# Altium integrated library Actel ProASIC3.IntLib: 465 symbols (part 13 of 68)
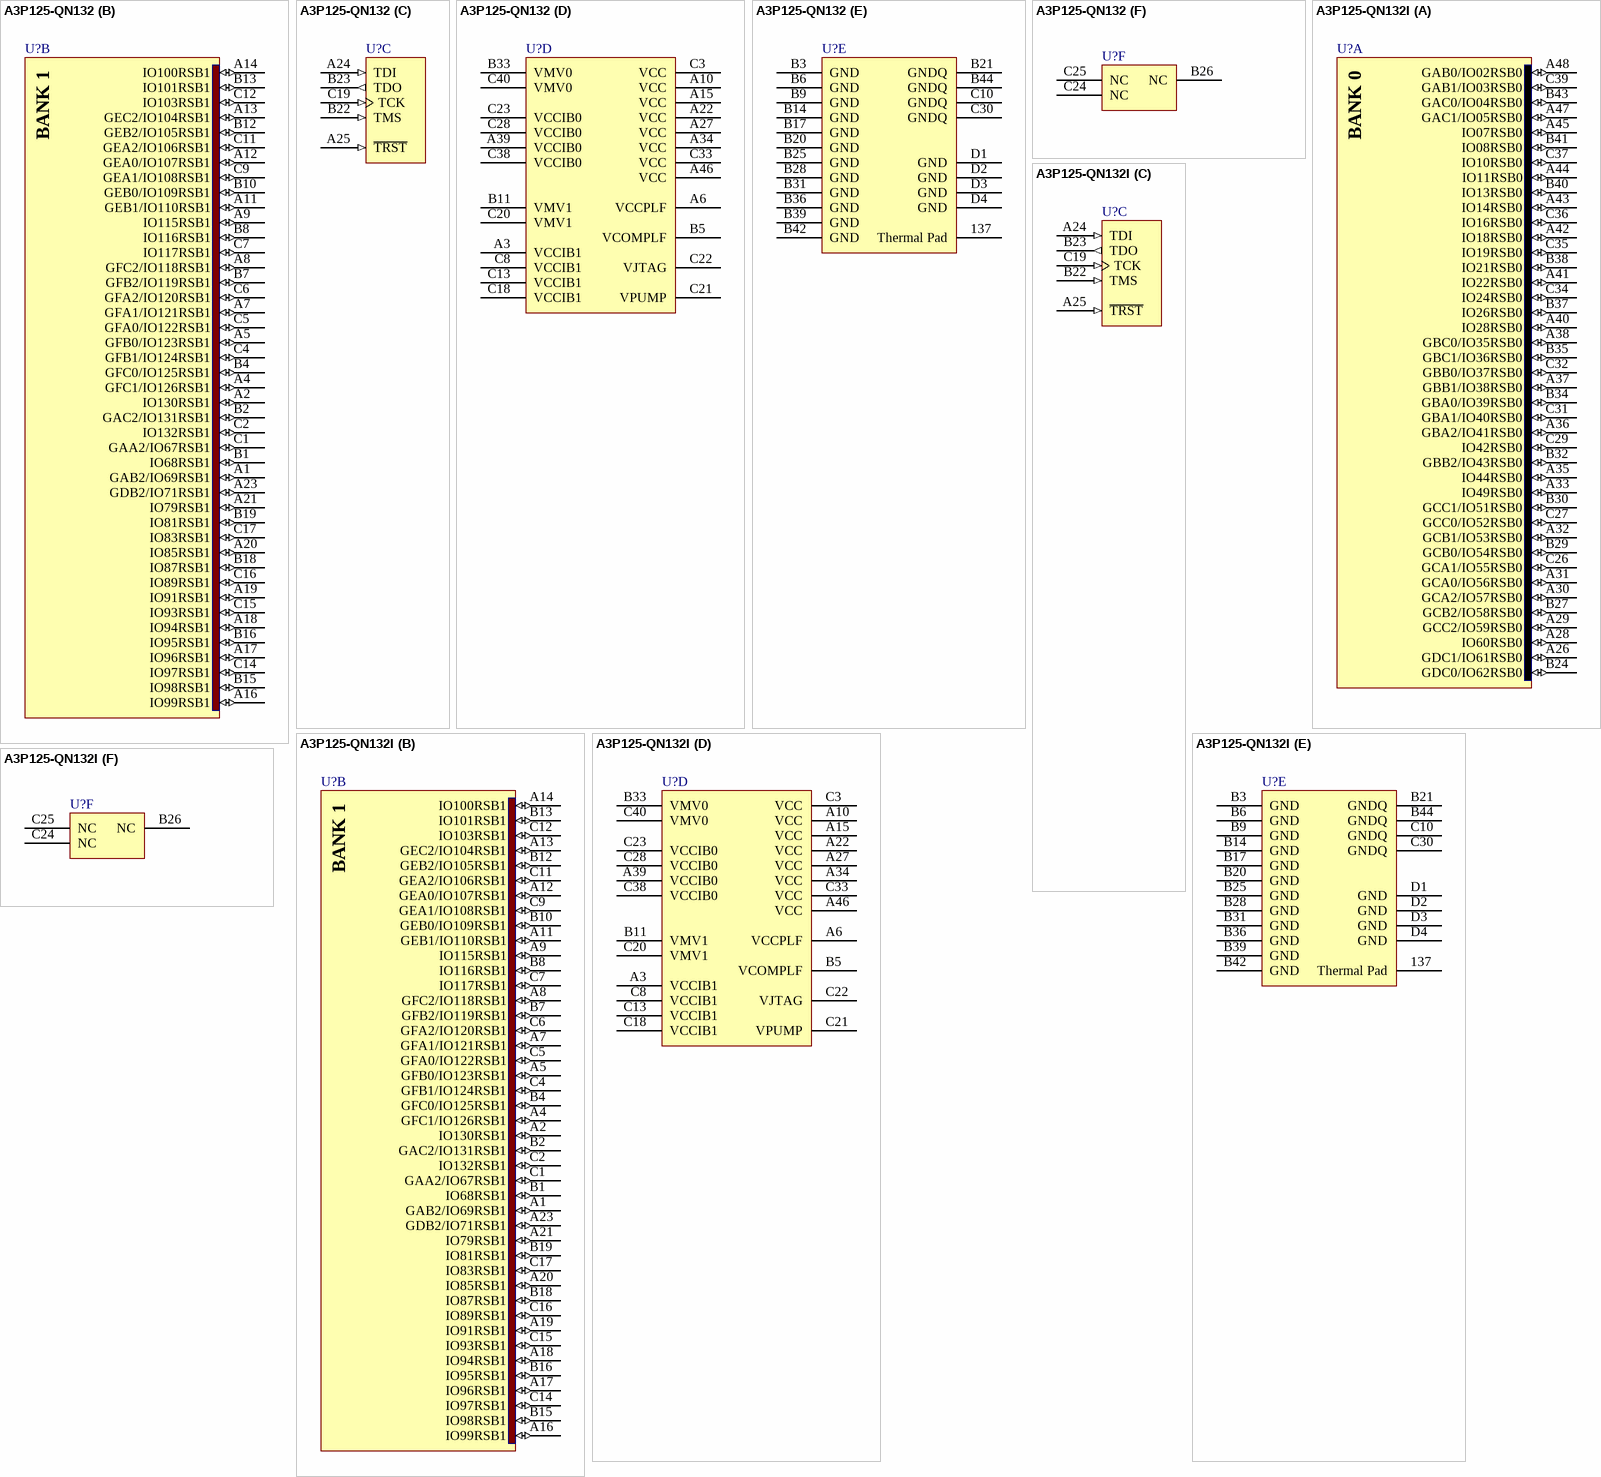
[diagram p330: symbols A3P125-QN132 to A3P125-QN132I]

## A3P125-QN132
designator U?
ProASIC3 Flash Family FPGA, 84 User IOs, 125K System Gates, 36 Kbits RAM, 1 Kbit ProASIC3 Flash ROM, 1 PLL, 132-Pin QFN, Commercial Grade; Published: 30-Mar-2007; LatestRevisionDate: 11-Dec-2009; LatestRevisionNote: Updated to datasheet version 1.3 Oct-2009.; DatasheetVersion: v1.3, Oct-2009; PackageVersion: ver11.2, Nov-2009; PackageReference: QN132; Publisher: Altium Limited; PackageDescription: 132-Pin Quad Flat Pack No-Leads (QN132); ComponentLink1Description: ProASIC3 Datasheet; ComponentLink1URL: http://www.actel.com/documents/PA3_DS.pdf; ComponentLink2Description: Package Mechanical Drawings; ComponentLink2URL: http://www.actel.com/documents/PckgMechDrwngs.pdf; ComponentLink3Description: ProASIC3 Documents; ComponentLink3URL: http://www.actel.com/products/pa3/docs.aspx; ComponentLink4Description: Actel.com Home; ComponentLink4URL: http://www.actel.com/
footprint QN132 (QFN, 132-Leads, Body 8x8mm, Pitch 0.5mm)
signal-integrity model A3P125_QN132 (ProASIC3)
part A pins: A26 GDC1/IO61RSB0 (io), A28 IO60RSB0 (io), A29 GCC2/IO59RSB0 (io), A30 GCA2/IO57RSB0 (io), A31 GCA0/IO56RSB0 (io), A32 GCB1/IO53RSB0 (io), A33 IO49RSB0 (io), A35 IO44RSB0 (io), A36 GBA2/IO41RSB0 (io), A37 GBB1/IO38RSB0 (io), A38 GBC0/IO35RSB0 (io), A40 IO28RSB0 (io), A41 IO22RSB0 (io), A42 IO18RSB0 (io), A43 IO14RSB0 (io), A44 IO11RSB0 (io), A45 IO07RSB0 (io), A47 GAC1/IO05RSB0 (io), A48 GAB0/IO02RSB0 (io), B24 GDC0/IO62RSB0 (io), B27 GCB2/IO58RSB0 (io), B29 GCB0/IO54RSB0 (io), B30 GCC1/IO51RSB0 (io), B32 GBB2/IO43RSB0 (io), B34 GBA0/IO39RSB0 (io), B35 GBC1/IO36RSB0 (io), B37 IO26RSB0 (io), B38 IO21RSB0 (io), B40 IO13RSB0 (io), B41 IO08RSB0 (io), B43 GAC0/IO04RSB0 (io), C26 GCA1/IO55RSB0 (io), C27 GCC0/IO52RSB0 (io), C29 IO42RSB0 (io), C31 GBA1/IO40RSB0 (io), C32 GBB0/IO37RSB0 (io), C34 IO24RSB0 (io), C35 IO19RSB0 (io), C36 IO16RSB0 (io), C37 IO10RSB0 (io), C39 GAB1/IO03RSB0 (io)
part B pins: A1 GAB2/IO69RSB1 (io), A2 IO130RSB1 (io), A4 GFC1/IO126RSB1 (io), A5 GFB0/IO123RSB1 (io), A7 GFA1/IO121RSB1 (io), A8 GFC2/IO118RSB1 (io), A9 IO115RSB1 (io), A11 GEB1/IO110RSB1 (io), A12 GEA0/IO107RSB1 (io), A13 GEC2/IO104RSB1 (io), A14 IO100RSB1 (io), A16 IO99RSB1 (io), A17 IO96RSB1 (io), A18 IO94RSB1 (io), A19 IO91RSB1 (io), A20 IO85RSB1 (io), A21 IO79RSB1 (io), A23 GDB2/IO71RSB1 (io), B1 IO68RSB1 (io), B2 GAC2/IO131RSB1 (io), B4 GFC0/IO125RSB1 (io), B7 GFB2/IO119RSB1 (io), B8 IO116RSB1 (io), B10 GEB0/IO109RSB1 (io), B12 GEB2/IO105RSB1 (io), B13 IO101RSB1 (io), B15 IO98RSB1 (io), B16 IO95RSB1 (io), B18 IO87RSB1 (io), B19 IO81RSB1 (io), C1 GAA2/IO67RSB1 (io), C2 IO132RSB1 (io), C4 GFB1/IO124RSB1 (io), C5 GFA0/IO122RSB1 (io), C6 GFA2/IO120RSB1 (io), C7 IO117RSB1 (io), C9 GEA1/IO108RSB1 (io), C11 GEA2/IO106RSB1 (io), C12 IO103RSB1 (io), C14 IO97RSB1 (io), C15 IO93RSB1 (io), C16 IO89RSB1 (io), C17 IO83RSB1 (io)
part C pins: A24 TDI (in), A25 ~{TRST} (in), B22 TMS (in), B23 TDO (out), C19 TCK (in)
part D pins: A3 VCCIB1 (power), A6 VCCPLF (power), A10 VCC (power), A15 VCC (power), A22 VCC (power), A27 VCC (power), A34 VCC (power), A39 VCCIB0 (power), A46 VCC (power), B5 VCOMPLF (power), B11 VMV1 (power), B33 VMV0 (power), C3 VCC (power), C8 VCCIB1 (power), C13 VCCIB1 (power), C18 VCCIB1 (power), C20 VMV1 (power), C21 VPUMP (power), C22 VJTAG (power), C23 VCCIB0 (power), C28 VCCIB0 (power), C33 VCC (power), C38 VCCIB0 (power), C40 VMV0 (power)
part E pins: 137 Thermal Pad (power), B3 GND (power), B6 GND (power), B9 GND (power), B14 GND (power), B17 GND (power), B20 GND (power), B21 GNDQ (power), B25 GND (power), B28 GND (power), B31 GND (power), B36 GND (power), B39 GND (power), B42 GND (power), B44 GNDQ (power), C10 GNDQ (power), C30 GNDQ (power), D1 GND (power), D2 GND (power), D3 GND (power), D4 GND (power)
part F pins: B26 NC, C24 NC, C25 NC
part A text: BANK 0
part B text: BANK 1

## A3P125-QN132I
designator U?
ProASIC3 Flash Family FPGA, 84 User IOs, 125K System Gates, 36 Kbits RAM, 1 Kbit ProASIC3 Flash ROM, 1 PLL, 132-Pin QFN, Industrial Grade; Published: 30-Mar-2007; LatestRevisionDate: 11-Dec-2009; LatestRevisionNote: Updated to datasheet version 1.3 Oct-2009.; DatasheetVersion: v1.3, Oct-2009; PackageVersion: ver11.2, Nov-2009; PackageReference: QN132; Publisher: Altium Limited; PackageDescription: 132-Pin Quad Flat Pack No-Leads (QN132); ComponentLink1Description: ProASIC3 Datasheet; ComponentLink1URL: http://www.actel.com/documents/PA3_DS.pdf; ComponentLink2Description: Package Mechanical Drawings; ComponentLink2URL: http://www.actel.com/documents/PckgMechDrwngs.pdf; ComponentLink3Description: ProASIC3 Documents; ComponentLink3URL: http://www.actel.com/products/pa3/docs.aspx; ComponentLink4Description: Actel.com Home; ComponentLink4URL: http://www.actel.com/
footprint QN132 (QFN, 132-Leads, Body 8x8mm, Pitch 0.5mm)
signal-integrity model A3P125_QN132 (ProASIC3)
part A pins: A26 GDC1/IO61RSB0 (io), A28 IO60RSB0 (io), A29 GCC2/IO59RSB0 (io), A30 GCA2/IO57RSB0 (io), A31 GCA0/IO56RSB0 (io), A32 GCB1/IO53RSB0 (io), A33 IO49RSB0 (io), A35 IO44RSB0 (io), A36 GBA2/IO41RSB0 (io), A37 GBB1/IO38RSB0 (io), A38 GBC0/IO35RSB0 (io), A40 IO28RSB0 (io), A41 IO22RSB0 (io), A42 IO18RSB0 (io), A43 IO14RSB0 (io), A44 IO11RSB0 (io), A45 IO07RSB0 (io), A47 GAC1/IO05RSB0 (io), A48 GAB0/IO02RSB0 (io), B24 GDC0/IO62RSB0 (io), B27 GCB2/IO58RSB0 (io), B29 GCB0/IO54RSB0 (io), B30 GCC1/IO51RSB0 (io), B32 GBB2/IO43RSB0 (io), B34 GBA0/IO39RSB0 (io), B35 GBC1/IO36RSB0 (io), B37 IO26RSB0 (io), B38 IO21RSB0 (io), B40 IO13RSB0 (io), B41 IO08RSB0 (io), B43 GAC0/IO04RSB0 (io), C26 GCA1/IO55RSB0 (io), C27 GCC0/IO52RSB0 (io), C29 IO42RSB0 (io), C31 GBA1/IO40RSB0 (io), C32 GBB0/IO37RSB0 (io), C34 IO24RSB0 (io), C35 IO19RSB0 (io), C36 IO16RSB0 (io), C37 IO10RSB0 (io), C39 GAB1/IO03RSB0 (io)
part B pins: A1 GAB2/IO69RSB1 (io), A2 IO130RSB1 (io), A4 GFC1/IO126RSB1 (io), A5 GFB0/IO123RSB1 (io), A7 GFA1/IO121RSB1 (io), A8 GFC2/IO118RSB1 (io), A9 IO115RSB1 (io), A11 GEB1/IO110RSB1 (io), A12 GEA0/IO107RSB1 (io), A13 GEC2/IO104RSB1 (io), A14 IO100RSB1 (io), A16 IO99RSB1 (io), A17 IO96RSB1 (io), A18 IO94RSB1 (io), A19 IO91RSB1 (io), A20 IO85RSB1 (io), A21 IO79RSB1 (io), A23 GDB2/IO71RSB1 (io), B1 IO68RSB1 (io), B2 GAC2/IO131RSB1 (io), B4 GFC0/IO125RSB1 (io), B7 GFB2/IO119RSB1 (io), B8 IO116RSB1 (io), B10 GEB0/IO109RSB1 (io), B12 GEB2/IO105RSB1 (io), B13 IO101RSB1 (io), B15 IO98RSB1 (io), B16 IO95RSB1 (io), B18 IO87RSB1 (io), B19 IO81RSB1 (io), C1 GAA2/IO67RSB1 (io), C2 IO132RSB1 (io), C4 GFB1/IO124RSB1 (io), C5 GFA0/IO122RSB1 (io), C6 GFA2/IO120RSB1 (io), C7 IO117RSB1 (io), C9 GEA1/IO108RSB1 (io), C11 GEA2/IO106RSB1 (io), C12 IO103RSB1 (io), C14 IO97RSB1 (io), C15 IO93RSB1 (io), C16 IO89RSB1 (io), C17 IO83RSB1 (io)
part C pins: A24 TDI (in), A25 ~{TRST} (in), B22 TMS (in), B23 TDO (out), C19 TCK (in)
part D pins: A3 VCCIB1 (power), A6 VCCPLF (power), A10 VCC (power), A15 VCC (power), A22 VCC (power), A27 VCC (power), A34 VCC (power), A39 VCCIB0 (power), A46 VCC (power), B5 VCOMPLF (power), B11 VMV1 (power), B33 VMV0 (power), C3 VCC (power), C8 VCCIB1 (power), C13 VCCIB1 (power), C18 VCCIB1 (power), C20 VMV1 (power), C21 VPUMP (power), C22 VJTAG (power), C23 VCCIB0 (power), C28 VCCIB0 (power), C33 VCC (power), C38 VCCIB0 (power), C40 VMV0 (power)
part E pins: 137 Thermal Pad (power), B3 GND (power), B6 GND (power), B9 GND (power), B14 GND (power), B17 GND (power), B20 GND (power), B21 GNDQ (power), B25 GND (power), B28 GND (power), B31 GND (power), B36 GND (power), B39 GND (power), B42 GND (power), B44 GNDQ (power), C10 GNDQ (power), C30 GNDQ (power), D1 GND (power), D2 GND (power), D3 GND (power), D4 GND (power)
part F pins: B26 NC, C24 NC, C25 NC
part A text: BANK 0
part B text: BANK 1

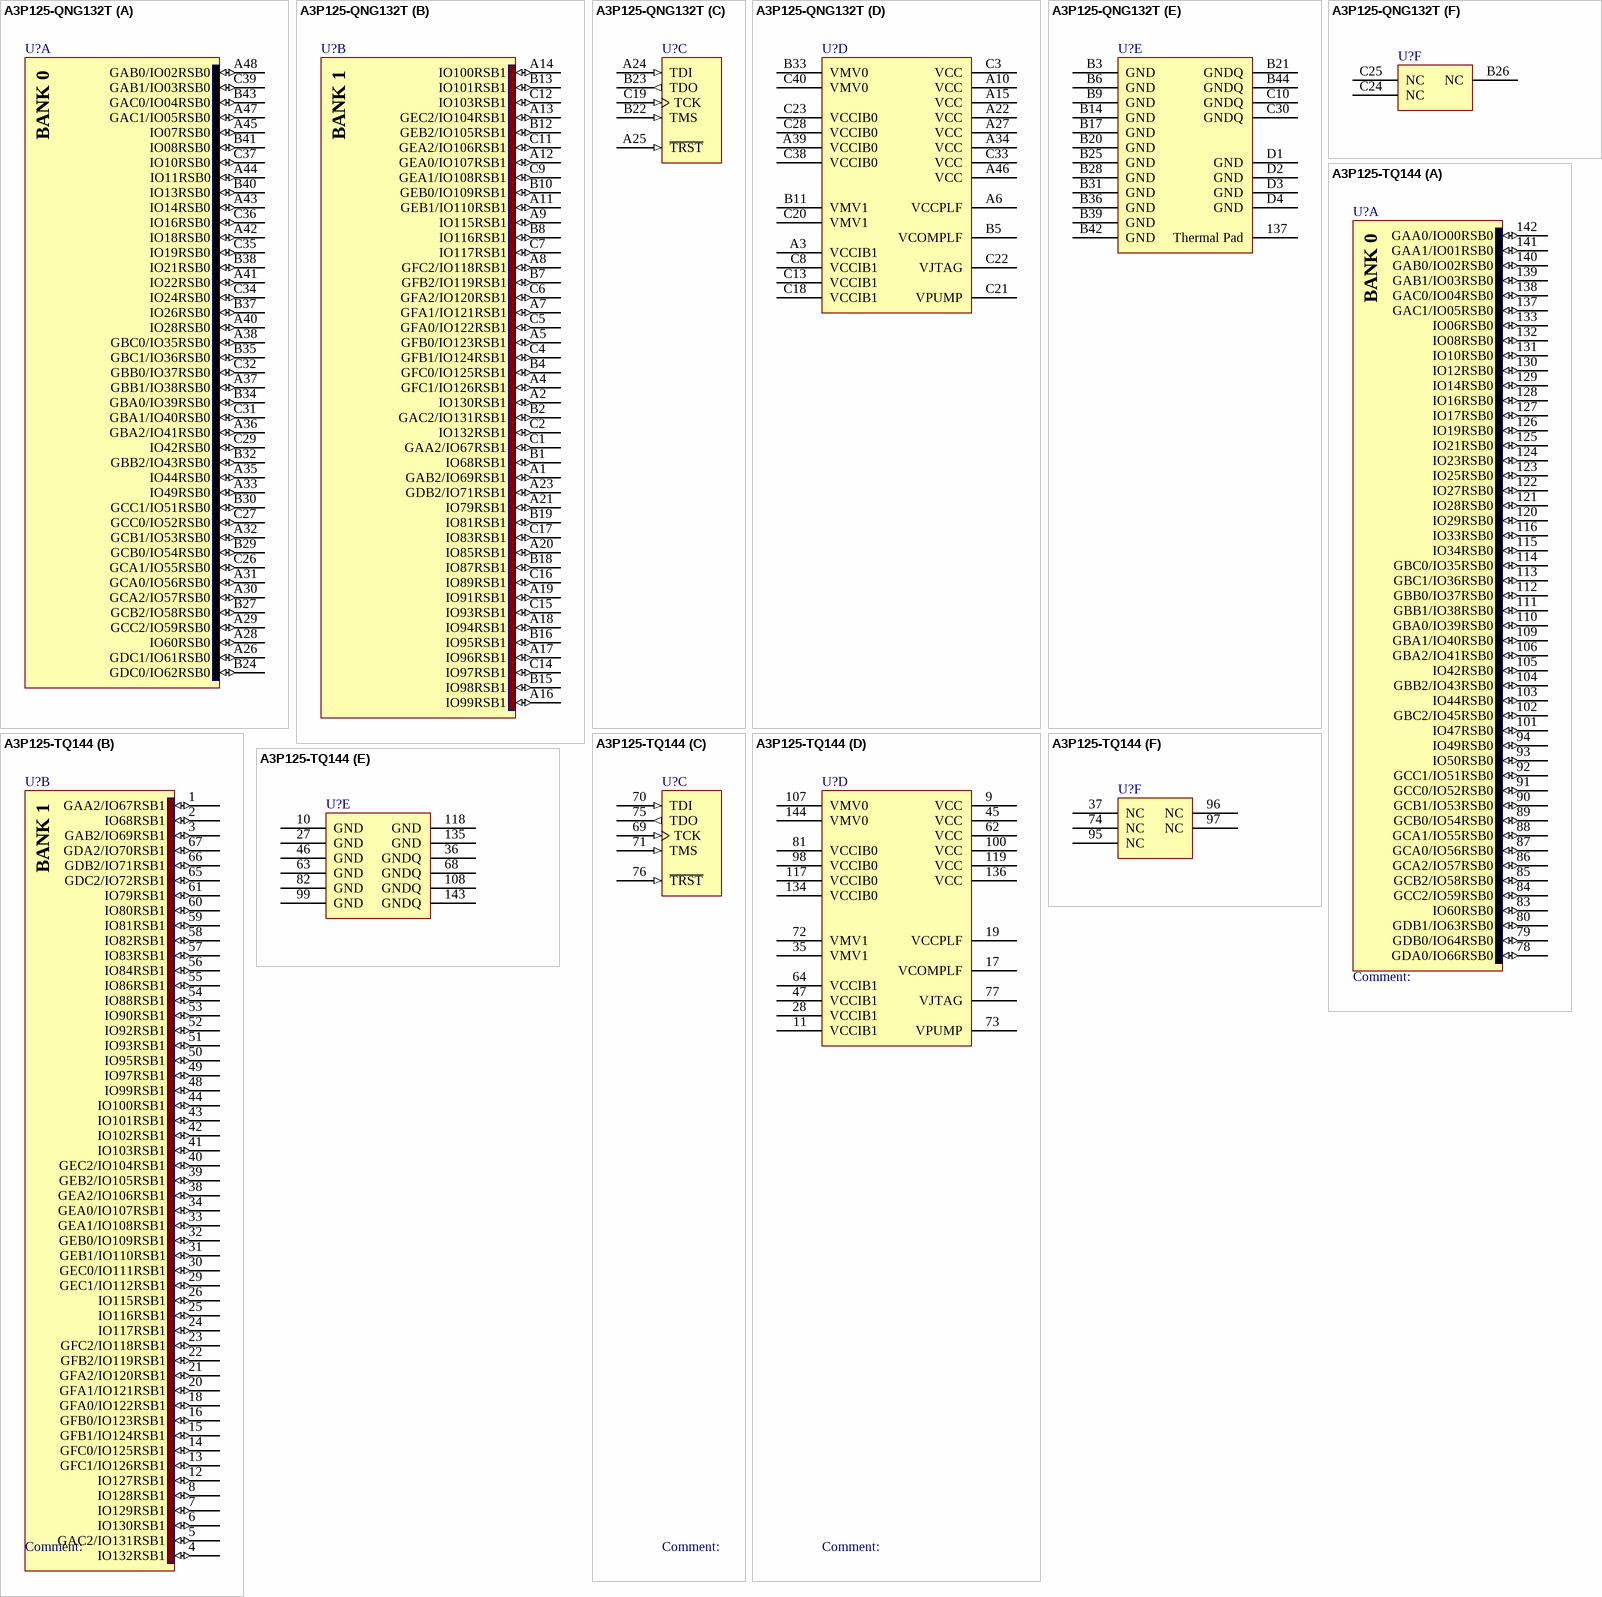
[diagram p56: symbols A3P125-QNG132T to A3P125-TQ144]

## A3P125-QNG132T
designator U?
ProASIC3 Flash Family FPGA, 84 User IOs, 125K System Gates, 36 Kbits RAM, 1 Kbit ProASIC3 Flash ROM, 1 PLL, 132-Pin QFN, Automotive Grade, Pb-Free; Published: 11-Dec-2009; DatasheetVersion: v1.1, Dec-2009; PackageVersion: ver11.2, Nov-2009; PackageReference: QN132; Publisher: Altium Limited; PackageDescription: 132-Pin Quad Flat Pack No-Leads (QN132); ComponentLink1Description: ProASIC3 Datasheet; ComponentLink1URL: http://www.actel.com/documents/PA3_DS.pdf; ComponentLink2Description: Package Mechanical Drawings; ComponentLink2URL: http://www.actel.com/documents/PckgMechDrwngs.pdf; ComponentLink3Description: ProASIC3 Documents; ComponentLink3URL: http://www.actel.com/products/pa3/docs.aspx; ComponentLink4Description: Actel.com Home; ComponentLink4URL: http://www.actel.com/
footprint QN132 (QFN, 132-Leads, Body 8x8mm, Pitch 0.5mm)
signal-integrity model A3P125_QN132 (ProASIC3)
part A pins: A26 GDC1/IO61RSB0 (io), A28 IO60RSB0 (io), A29 GCC2/IO59RSB0 (io), A30 GCA2/IO57RSB0 (io), A31 GCA0/IO56RSB0 (io), A32 GCB1/IO53RSB0 (io), A33 IO49RSB0 (io), A35 IO44RSB0 (io), A36 GBA2/IO41RSB0 (io), A37 GBB1/IO38RSB0 (io), A38 GBC0/IO35RSB0 (io), A40 IO28RSB0 (io), A41 IO22RSB0 (io), A42 IO18RSB0 (io), A43 IO14RSB0 (io), A44 IO11RSB0 (io), A45 IO07RSB0 (io), A47 GAC1/IO05RSB0 (io), A48 GAB0/IO02RSB0 (io), B24 GDC0/IO62RSB0 (io), B27 GCB2/IO58RSB0 (io), B29 GCB0/IO54RSB0 (io), B30 GCC1/IO51RSB0 (io), B32 GBB2/IO43RSB0 (io), B34 GBA0/IO39RSB0 (io), B35 GBC1/IO36RSB0 (io), B37 IO26RSB0 (io), B38 IO21RSB0 (io), B40 IO13RSB0 (io), B41 IO08RSB0 (io), B43 GAC0/IO04RSB0 (io), C26 GCA1/IO55RSB0 (io), C27 GCC0/IO52RSB0 (io), C29 IO42RSB0 (io), C31 GBA1/IO40RSB0 (io), C32 GBB0/IO37RSB0 (io), C34 IO24RSB0 (io), C35 IO19RSB0 (io), C36 IO16RSB0 (io), C37 IO10RSB0 (io), C39 GAB1/IO03RSB0 (io)
part B pins: A1 GAB2/IO69RSB1 (io), A2 IO130RSB1 (io), A4 GFC1/IO126RSB1 (io), A5 GFB0/IO123RSB1 (io), A7 GFA1/IO121RSB1 (io), A8 GFC2/IO118RSB1 (io), A9 IO115RSB1 (io), A11 GEB1/IO110RSB1 (io), A12 GEA0/IO107RSB1 (io), A13 GEC2/IO104RSB1 (io), A14 IO100RSB1 (io), A16 IO99RSB1 (io), A17 IO96RSB1 (io), A18 IO94RSB1 (io), A19 IO91RSB1 (io), A20 IO85RSB1 (io), A21 IO79RSB1 (io), A23 GDB2/IO71RSB1 (io), B1 IO68RSB1 (io), B2 GAC2/IO131RSB1 (io), B4 GFC0/IO125RSB1 (io), B7 GFB2/IO119RSB1 (io), B8 IO116RSB1 (io), B10 GEB0/IO109RSB1 (io), B12 GEB2/IO105RSB1 (io), B13 IO101RSB1 (io), B15 IO98RSB1 (io), B16 IO95RSB1 (io), B18 IO87RSB1 (io), B19 IO81RSB1 (io), C1 GAA2/IO67RSB1 (io), C2 IO132RSB1 (io), C4 GFB1/IO124RSB1 (io), C5 GFA0/IO122RSB1 (io), C6 GFA2/IO120RSB1 (io), C7 IO117RSB1 (io), C9 GEA1/IO108RSB1 (io), C11 GEA2/IO106RSB1 (io), C12 IO103RSB1 (io), C14 IO97RSB1 (io), C15 IO93RSB1 (io), C16 IO89RSB1 (io), C17 IO83RSB1 (io)
part C pins: A24 TDI (in), A25 ~{TRST} (in), B22 TMS (in), B23 TDO (out), C19 TCK (in)
part D pins: A3 VCCIB1 (power), A6 VCCPLF (power), A10 VCC (power), A15 VCC (power), A22 VCC (power), A27 VCC (power), A34 VCC (power), A39 VCCIB0 (power), A46 VCC (power), B5 VCOMPLF (power), B11 VMV1 (power), B33 VMV0 (power), C3 VCC (power), C8 VCCIB1 (power), C13 VCCIB1 (power), C18 VCCIB1 (power), C20 VMV1 (power), C21 VPUMP (power), C22 VJTAG (power), C23 VCCIB0 (power), C28 VCCIB0 (power), C33 VCC (power), C38 VCCIB0 (power), C40 VMV0 (power)
part E pins: 137 Thermal Pad (power), B3 GND (power), B6 GND (power), B9 GND (power), B14 GND (power), B17 GND (power), B20 GND (power), B21 GNDQ (power), B25 GND (power), B28 GND (power), B31 GND (power), B36 GND (power), B39 GND (power), B42 GND (power), B44 GNDQ (power), C10 GNDQ (power), C30 GNDQ (power), D1 GND (power), D2 GND (power), D3 GND (power), D4 GND (power)
part F pins: B26 NC, C24 NC, C25 NC
part A text: BANK 0
part B text: BANK 1

## A3P125-TQ144
designator U?
ProASIC3 Flash Family FPGA, 100 User IOs, 125K System Gates, 36 Kbits RAM, 1 Kbit Flash ROM, 1 PLL, 144-Pin TQFP, Commercial Grade; Published: 4-Mar-2005; LatestRevisionDate: 11-Dec-2009; LatestRevisionNote: Updated to datasheet version 1.3 Oct-2009.; DatasheetVersion: v1.3, Oct-2009; PackageVersion: ver11.2, Nov-2009; PackageReference: TQ144; Publisher: Altium Limited; PackageDescription: 144-Pin Plastic Quad Flat Pack (TQ144); Code_JEDEC: MS-026-BFB; ComponentLink1Description: ProASIC3 Datasheet; ComponentLink1URL: http://www.actel.com/documents/PA3_DS.pdf; ComponentLink2Description: Package Mechanical Drawings; ComponentLink2URL: http://www.actel.com/documents/PckgMechDrwngs.pdf; ComponentLink3Description: ProASIC3 Documents; ComponentLink3URL: http://www.actel.com/products/pa3/docs.aspx; ComponentLink4Description: Actel.com Home; ComponentLink4URL: http://www.actel.com/
footprint TQ144_N (Thin QFP, 144-Leads, Body 20x20mm, Pitch 0.5mm, IPC Medium Density)
footprint TQ144_L (Thin QFP, 144-Leads, Body 20x20mm, Pitch 0.5mm, IPC High Density)
footprint TQ144_M (Thin QFP, 144-Leads, Body 20x20mm, Pitch 0.5mm, IPC Low Density)
signal-integrity model A3P125_TQ144 (ProASIC3)
part A pins: 78 GDA0/IO66RSB0 (io), 79 GDB0/IO64RSB0 (io), 80 GDB1/IO63RSB0 (io), 83 IO60RSB0 (io), 84 GCC2/IO59RSB0 (io), 85 GCB2/IO58RSB0 (io), 86 GCA2/IO57RSB0 (io), 87 GCA0/IO56RSB0 (io), 88 GCA1/IO55RSB0 (io), 89 GCB0/IO54RSB0 (io), 90 GCB1/IO53RSB0 (io), 91 GCC0/IO52RSB0 (io), 92 GCC1/IO51RSB0 (io), 93 IO50RSB0 (io), 94 IO49RSB0 (io), 101 IO47RSB0 (io), 102 GBC2/IO45RSB0 (io), 103 IO44RSB0 (io), 104 GBB2/IO43RSB0 (io), 105 IO42RSB0 (io), 106 GBA2/IO41RSB0 (io), 109 GBA1/IO40RSB0 (io), 110 GBA0/IO39RSB0 (io), 111 GBB1/IO38RSB0 (io), 112 GBB0/IO37RSB0 (io), 113 GBC1/IO36RSB0 (io), 114 GBC0/IO35RSB0 (io), 115 IO34RSB0 (io), 116 IO33RSB0 (io), 120 IO29RSB0 (io), 121 IO28RSB0 (io), 122 IO27RSB0 (io), 123 IO25RSB0 (io), 124 IO23RSB0 (io), 125 IO21RSB0 (io), 126 IO19RSB0 (io), 127 IO17RSB0 (io), 128 IO16RSB0 (io), 129 IO14RSB0 (io), 130 IO12RSB0 (io), 131 IO10RSB0 (io), 132 IO08RSB0 (io), 133 IO06RSB0 (io), 137 GAC1/IO05RSB0 (io), 138 GAC0/IO04RSB0 (io), 139 GAB1/IO03RSB0 (io), 140 GAB0/IO02RSB0 (io), 141 GAA1/IO01RSB0 (io), 142 GAA0/IO00RSB0 (io)
part B pins: 1 GAA2/IO67RSB1 (io), 2 IO68RSB1 (io), 3 GAB2/IO69RSB1 (io), 4 IO132RSB1 (io), 5 GAC2/IO131RSB1 (io), 6 IO130RSB1 (io), 7 IO129RSB1 (io), 8 IO128RSB1 (io), 12 IO127RSB1 (io), 13 GFC1/IO126RSB1 (io), 14 GFC0/IO125RSB1 (io), 15 GFB1/IO124RSB1 (io), 16 GFB0/IO123RSB1 (io), 18 GFA0/IO122RSB1 (io), 20 GFA1/IO121RSB1 (io), 21 GFA2/IO120RSB1 (io), 22 GFB2/IO119RSB1 (io), 23 GFC2/IO118RSB1 (io), 24 IO117RSB1 (io), 25 IO116RSB1 (io), 26 IO115RSB1 (io), 29 GEC1/IO112RSB1 (io), 30 GEC0/IO111RSB1 (io), 31 GEB1/IO110RSB1 (io), 32 GEB0/IO109RSB1 (io), 33 GEA1/IO108RSB1 (io), 34 GEA0/IO107RSB1 (io), 38 GEA2/IO106RSB1 (io), 39 GEB2/IO105RSB1 (io), 40 GEC2/IO104RSB1 (io), 41 IO103RSB1 (io), 42 IO102RSB1 (io), 43 IO101RSB1 (io), 44 IO100RSB1 (io), 48 IO99RSB1 (io), 49 IO97RSB1 (io), 50 IO95RSB1 (io), 51 IO93RSB1 (io), 52 IO92RSB1 (io), 53 IO90RSB1 (io), 54 IO88RSB1 (io), 55 IO86RSB1 (io), 56 IO84RSB1 (io), 57 IO83RSB1 (io), 58 IO82RSB1 (io), 59 IO81RSB1 (io), 60 IO80RSB1 (io), 61 IO79RSB1 (io), 65 GDC2/IO72RSB1 (io), 66 GDB2/IO71RSB1 (io), 67 GDA2/IO70RSB1 (io)
part C pins: 69 TCK (in), 70 TDI (in), 71 TMS (in), 75 TDO (out), 76 ~{TRST} (in)
part D pins: 9 VCC (power), 11 VCCIB1 (power), 17 VCOMPLF (power), 19 VCCPLF (power), 28 VCCIB1 (power), 35 VMV1 (power), 45 VCC (power), 47 VCCIB1 (power), 62 VCC (power), 64 VCCIB1 (power), 72 VMV1 (power), 73 VPUMP (power), 77 VJTAG (power), 81 VCCIB0 (power), 98 VCCIB0 (power), 100 VCC (power), 107 VMV0 (power), 117 VCCIB0 (power), 119 VCC (power), 134 VCCIB0 (power), 136 VCC (power), 144 VMV0 (power)
part E pins: 10 GND (power), 27 GND (power), 36 GNDQ (power), 46 GND (power), 63 GND (power), 68 GNDQ (power), 82 GND (power), 99 GND (power), 108 GNDQ (power), 118 GND (power), 135 GND (power), 143 GNDQ (power)
part F pins: 37 NC, 74 NC, 95 NC, 96 NC, 97 NC
part A text: BANK 0
part B text: BANK 1

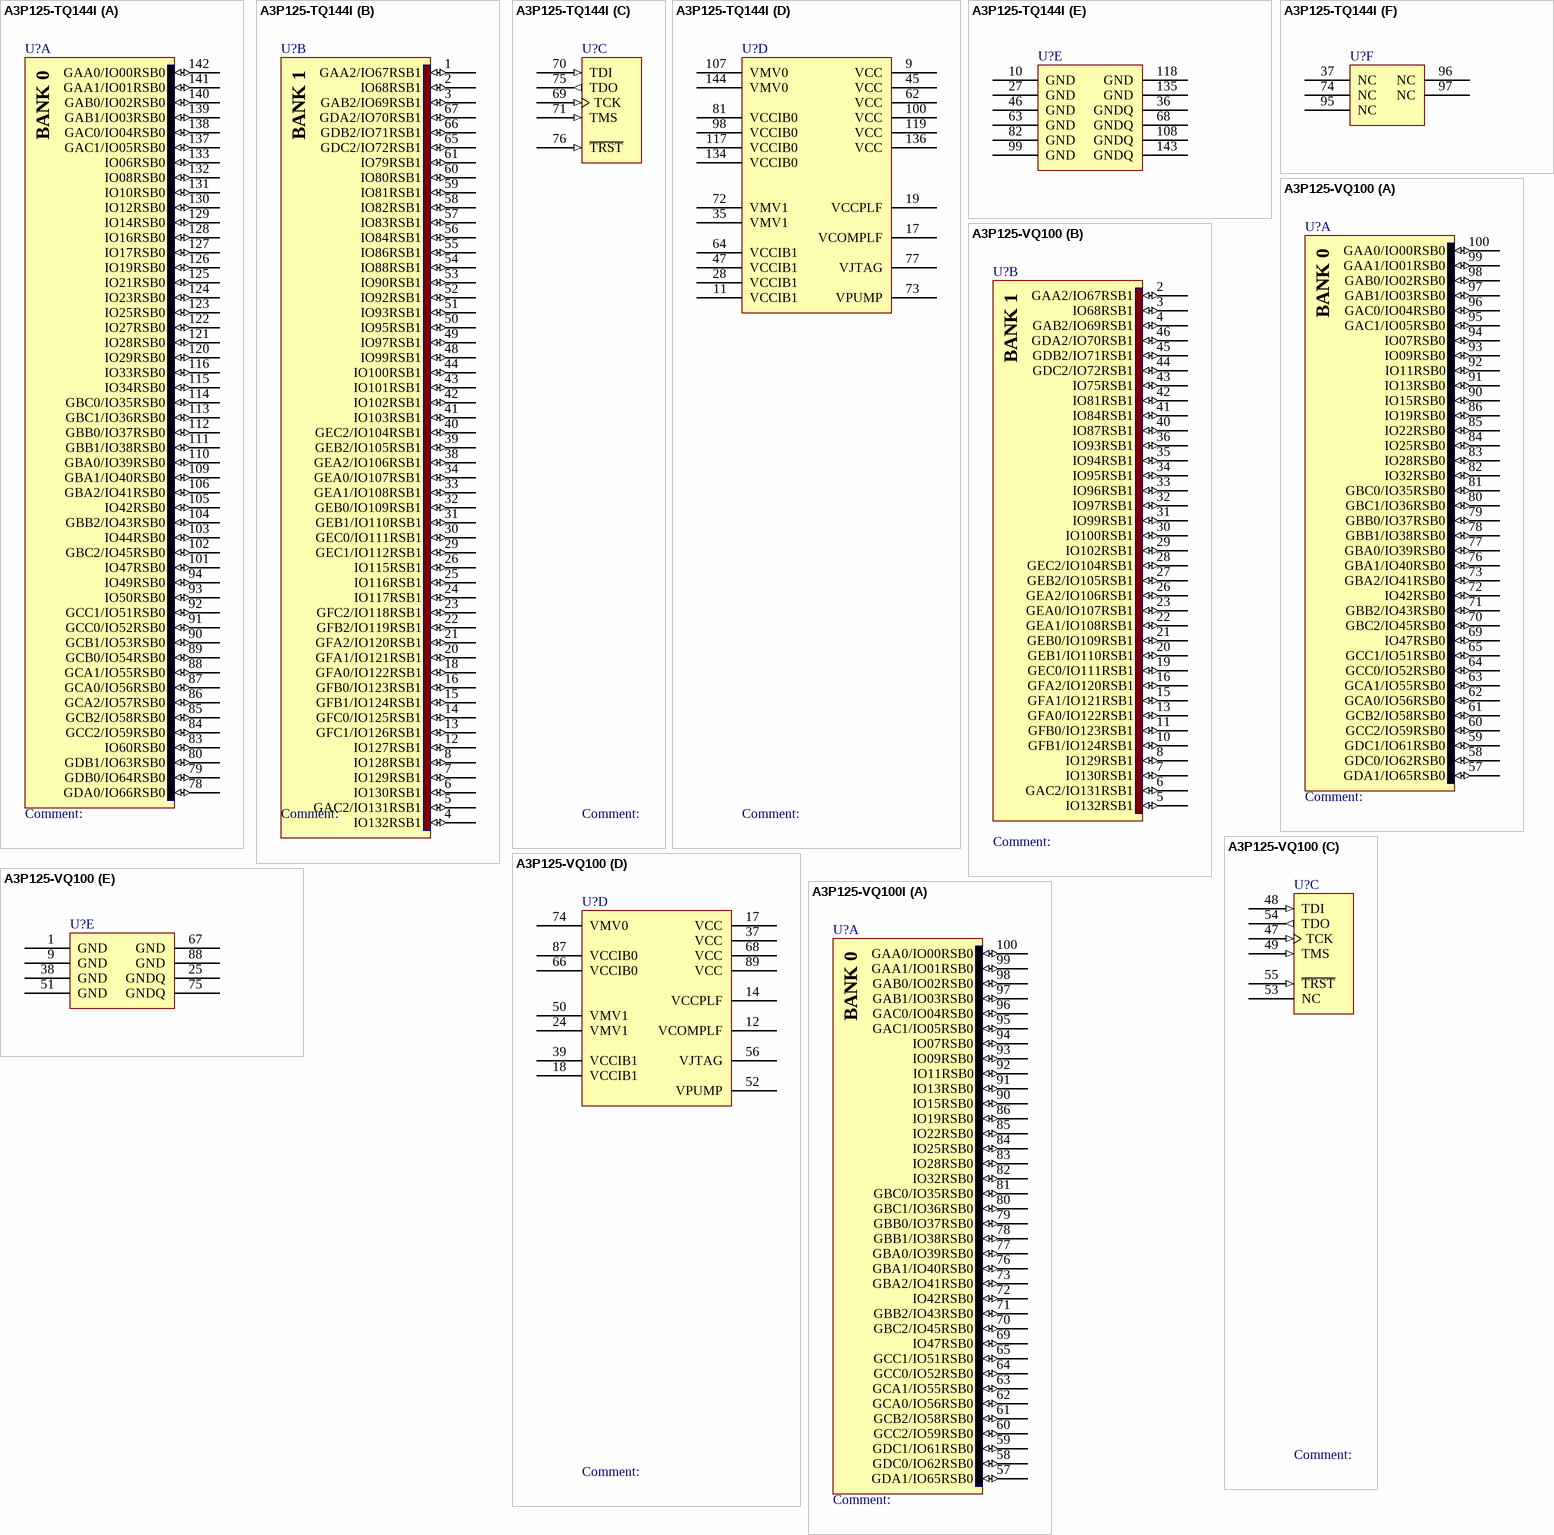
[diagram p57: symbols A3P125-TQ144I to A3P125-VQ100I]

## A3P125-TQ144I
designator U?
ProASIC3 Flash Family FPGA, 100 User IOs, 125K System Gates, 36 Kbits RAM, 1 Kbit Flash ROM, 1 PLL, 144-Pin TQFP, Industrial Grade; Published: 4-Mar-2005; LatestRevisionDate: 11-Dec-2009; LatestRevisionNote: Updated to datasheet version 1.3 Oct-2009.; DatasheetVersion: v1.3, Oct-2009; PackageVersion: ver11.2, Nov-2009; PackageReference: TQ144; Publisher: Altium Limited; PackageDescription: 144-Pin Plastic Quad Flat Pack (TQ144); Code_JEDEC: MS-026-BFB; ComponentLink1Description: ProASIC3 Datasheet; ComponentLink1URL: http://www.actel.com/documents/PA3_DS.pdf; ComponentLink2Description: Package Mechanical Drawings; ComponentLink2URL: http://www.actel.com/documents/PckgMechDrwngs.pdf; ComponentLink3Description: ProASIC3 Documents; ComponentLink3URL: http://www.actel.com/products/pa3/docs.aspx; ComponentLink4Description: Actel.com Home; ComponentLink4URL: http://www.actel.com/
footprint TQ144_N (Thin QFP, 144-Leads, Body 20x20mm, Pitch 0.5mm, IPC Medium Density)
footprint TQ144_L (Thin QFP, 144-Leads, Body 20x20mm, Pitch 0.5mm, IPC High Density)
footprint TQ144_M (Thin QFP, 144-Leads, Body 20x20mm, Pitch 0.5mm, IPC Low Density)
signal-integrity model A3P125_TQ144 (ProASIC3)
part A pins: 78 GDA0/IO66RSB0 (io), 79 GDB0/IO64RSB0 (io), 80 GDB1/IO63RSB0 (io), 83 IO60RSB0 (io), 84 GCC2/IO59RSB0 (io), 85 GCB2/IO58RSB0 (io), 86 GCA2/IO57RSB0 (io), 87 GCA0/IO56RSB0 (io), 88 GCA1/IO55RSB0 (io), 89 GCB0/IO54RSB0 (io), 90 GCB1/IO53RSB0 (io), 91 GCC0/IO52RSB0 (io), 92 GCC1/IO51RSB0 (io), 93 IO50RSB0 (io), 94 IO49RSB0 (io), 101 IO47RSB0 (io), 102 GBC2/IO45RSB0 (io), 103 IO44RSB0 (io), 104 GBB2/IO43RSB0 (io), 105 IO42RSB0 (io), 106 GBA2/IO41RSB0 (io), 109 GBA1/IO40RSB0 (io), 110 GBA0/IO39RSB0 (io), 111 GBB1/IO38RSB0 (io), 112 GBB0/IO37RSB0 (io), 113 GBC1/IO36RSB0 (io), 114 GBC0/IO35RSB0 (io), 115 IO34RSB0 (io), 116 IO33RSB0 (io), 120 IO29RSB0 (io), 121 IO28RSB0 (io), 122 IO27RSB0 (io), 123 IO25RSB0 (io), 124 IO23RSB0 (io), 125 IO21RSB0 (io), 126 IO19RSB0 (io), 127 IO17RSB0 (io), 128 IO16RSB0 (io), 129 IO14RSB0 (io), 130 IO12RSB0 (io), 131 IO10RSB0 (io), 132 IO08RSB0 (io), 133 IO06RSB0 (io), 137 GAC1/IO05RSB0 (io), 138 GAC0/IO04RSB0 (io), 139 GAB1/IO03RSB0 (io), 140 GAB0/IO02RSB0 (io), 141 GAA1/IO01RSB0 (io), 142 GAA0/IO00RSB0 (io)
part B pins: 1 GAA2/IO67RSB1 (io), 2 IO68RSB1 (io), 3 GAB2/IO69RSB1 (io), 4 IO132RSB1 (io), 5 GAC2/IO131RSB1 (io), 6 IO130RSB1 (io), 7 IO129RSB1 (io), 8 IO128RSB1 (io), 12 IO127RSB1 (io), 13 GFC1/IO126RSB1 (io), 14 GFC0/IO125RSB1 (io), 15 GFB1/IO124RSB1 (io), 16 GFB0/IO123RSB1 (io), 18 GFA0/IO122RSB1 (io), 20 GFA1/IO121RSB1 (io), 21 GFA2/IO120RSB1 (io), 22 GFB2/IO119RSB1 (io), 23 GFC2/IO118RSB1 (io), 24 IO117RSB1 (io), 25 IO116RSB1 (io), 26 IO115RSB1 (io), 29 GEC1/IO112RSB1 (io), 30 GEC0/IO111RSB1 (io), 31 GEB1/IO110RSB1 (io), 32 GEB0/IO109RSB1 (io), 33 GEA1/IO108RSB1 (io), 34 GEA0/IO107RSB1 (io), 38 GEA2/IO106RSB1 (io), 39 GEB2/IO105RSB1 (io), 40 GEC2/IO104RSB1 (io), 41 IO103RSB1 (io), 42 IO102RSB1 (io), 43 IO101RSB1 (io), 44 IO100RSB1 (io), 48 IO99RSB1 (io), 49 IO97RSB1 (io), 50 IO95RSB1 (io), 51 IO93RSB1 (io), 52 IO92RSB1 (io), 53 IO90RSB1 (io), 54 IO88RSB1 (io), 55 IO86RSB1 (io), 56 IO84RSB1 (io), 57 IO83RSB1 (io), 58 IO82RSB1 (io), 59 IO81RSB1 (io), 60 IO80RSB1 (io), 61 IO79RSB1 (io), 65 GDC2/IO72RSB1 (io), 66 GDB2/IO71RSB1 (io), 67 GDA2/IO70RSB1 (io)
part C pins: 69 TCK (in), 70 TDI (in), 71 TMS (in), 75 TDO (out), 76 ~{TRST} (in)
part D pins: 9 VCC (power), 11 VCCIB1 (power), 17 VCOMPLF (power), 19 VCCPLF (power), 28 VCCIB1 (power), 35 VMV1 (power), 45 VCC (power), 47 VCCIB1 (power), 62 VCC (power), 64 VCCIB1 (power), 72 VMV1 (power), 73 VPUMP (power), 77 VJTAG (power), 81 VCCIB0 (power), 98 VCCIB0 (power), 100 VCC (power), 107 VMV0 (power), 117 VCCIB0 (power), 119 VCC (power), 134 VCCIB0 (power), 136 VCC (power), 144 VMV0 (power)
part E pins: 10 GND (power), 27 GND (power), 36 GNDQ (power), 46 GND (power), 63 GND (power), 68 GNDQ (power), 82 GND (power), 99 GND (power), 108 GNDQ (power), 118 GND (power), 135 GND (power), 143 GNDQ (power)
part F pins: 37 NC, 74 NC, 95 NC, 96 NC, 97 NC
part A text: BANK 0
part B text: BANK 1

## A3P125-VQ100
designator U?
ProASIC3 Flash Family FPGA, 71 User IOs, 125K System Gates, 36 Kbits RAM, 1 Kbit Flash ROM, 1 PLL, 100-Pin VQFP, Commercial Grade; Published: 4-Mar-2005; LatestRevisionDate: 11-Dec-2009; LatestRevisionNote: Updated to datasheet version 1.3 Oct-2009.; DatasheetVersion: v1.3, Oct-2009; PackageVersion: ver11.2, Nov-2009; PackageReference: VQ100; Publisher: Altium Limited; PackageDescription: 100-Pin Plastic Quad Flat Pack (VQ100); Code_JEDEC: MS-026-AED; ComponentLink1Description: ProASIC3 Datasheet; ComponentLink1URL: http://www.actel.com/documents/PA3_DS.pdf; ComponentLink2Description: Package Mechanical Drawings; ComponentLink2URL: http://www.actel.com/documents/PckgMechDrwngs.pdf; ComponentLink3Description: ProASIC3 Documents; ComponentLink3URL: http://www.actel.com/products/pa3/docs.aspx; ComponentLink4Description: Actel.com Home; ComponentLink4URL: http://www.actel.com/
footprint VQ100_N (Thin QFP, 100-Leads, Body 14x14mm, Pitch 0.5mm, IPC Medium Density)
footprint VQ100_L (Thin QFP, 100-Leads, Body 14x14mm, Pitch 0.5mm, IPC High Density)
footprint VQ100_M (Thin QFP, 100-Leads, Body 14x14mm, Pitch 0.5mm, IPC Low Density)
signal-integrity model A3P125_VQ100 (ProASIC3)
part A pins: 57 GDA1/IO65RSB0 (io), 58 GDC0/IO62RSB0 (io), 59 GDC1/IO61RSB0 (io), 60 GCC2/IO59RSB0 (io), 61 GCB2/IO58RSB0 (io), 62 GCA0/IO56RSB0 (io), 63 GCA1/IO55RSB0 (io), 64 GCC0/IO52RSB0 (io), 65 GCC1/IO51RSB0 (io), 69 IO47RSB0 (io), 70 GBC2/IO45RSB0 (io), 71 GBB2/IO43RSB0 (io), 72 IO42RSB0 (io), 73 GBA2/IO41RSB0 (io), 76 GBA1/IO40RSB0 (io), 77 GBA0/IO39RSB0 (io), 78 GBB1/IO38RSB0 (io), 79 GBB0/IO37RSB0 (io), 80 GBC1/IO36RSB0 (io), 81 GBC0/IO35RSB0 (io), 82 IO32RSB0 (io), 83 IO28RSB0 (io), 84 IO25RSB0 (io), 85 IO22RSB0 (io), 86 IO19RSB0 (io), 90 IO15RSB0 (io), 91 IO13RSB0 (io), 92 IO11RSB0 (io), 93 IO09RSB0 (io), 94 IO07RSB0 (io), 95 GAC1/IO05RSB0 (io), 96 GAC0/IO04RSB0 (io), 97 GAB1/IO03RSB0 (io), 98 GAB0/IO02RSB0 (io), 99 GAA1/IO01RSB0 (io), 100 GAA0/IO00RSB0 (io)
part B pins: 2 GAA2/IO67RSB1 (io), 3 IO68RSB1 (io), 4 GAB2/IO69RSB1 (io), 5 IO132RSB1 (io), 6 GAC2/IO131RSB1 (io), 7 IO130RSB1 (io), 8 IO129RSB1 (io), 10 GFB1/IO124RSB1 (io), 11 GFB0/IO123RSB1 (io), 13 GFA0/IO122RSB1 (io), 15 GFA1/IO121RSB1 (io), 16 GFA2/IO120RSB1 (io), 19 GEC0/IO111RSB1 (io), 20 GEB1/IO110RSB1 (io), 21 GEB0/IO109RSB1 (io), 22 GEA1/IO108RSB1 (io), 23 GEA0/IO107RSB1 (io), 26 GEA2/IO106RSB1 (io), 27 GEB2/IO105RSB1 (io), 28 GEC2/IO104RSB1 (io), 29 IO102RSB1 (io), 30 IO100RSB1 (io), 31 IO99RSB1 (io), 32 IO97RSB1 (io), 33 IO96RSB1 (io), 34 IO95RSB1 (io), 35 IO94RSB1 (io), 36 IO93RSB1 (io), 40 IO87RSB1 (io), 41 IO84RSB1 (io), 42 IO81RSB1 (io), 43 IO75RSB1 (io), 44 GDC2/IO72RSB1 (io), 45 GDB2/IO71RSB1 (io), 46 GDA2/IO70RSB1 (io)
part C pins: 47 TCK (in), 48 TDI (in), 49 TMS (in), 53 NC, 54 TDO (out), 55 ~{TRST} (in)
part D pins: 12 VCOMPLF (power), 14 VCCPLF (power), 17 VCC (power), 18 VCCIB1 (power), 24 VMV1 (power), 37 VCC (power), 39 VCCIB1 (power), 50 VMV1 (power), 52 VPUMP (power), 56 VJTAG (power), 66 VCCIB0 (power), 68 VCC (power), 74 VMV0 (power), 87 VCCIB0 (power), 89 VCC (power)
part E pins: 1 GND (power), 9 GND (power), 25 GNDQ (power), 38 GND (power), 51 GND (power), 67 GND (power), 75 GNDQ (power), 88 GND (power)
part A text: BANK 0
part B text: BANK 1

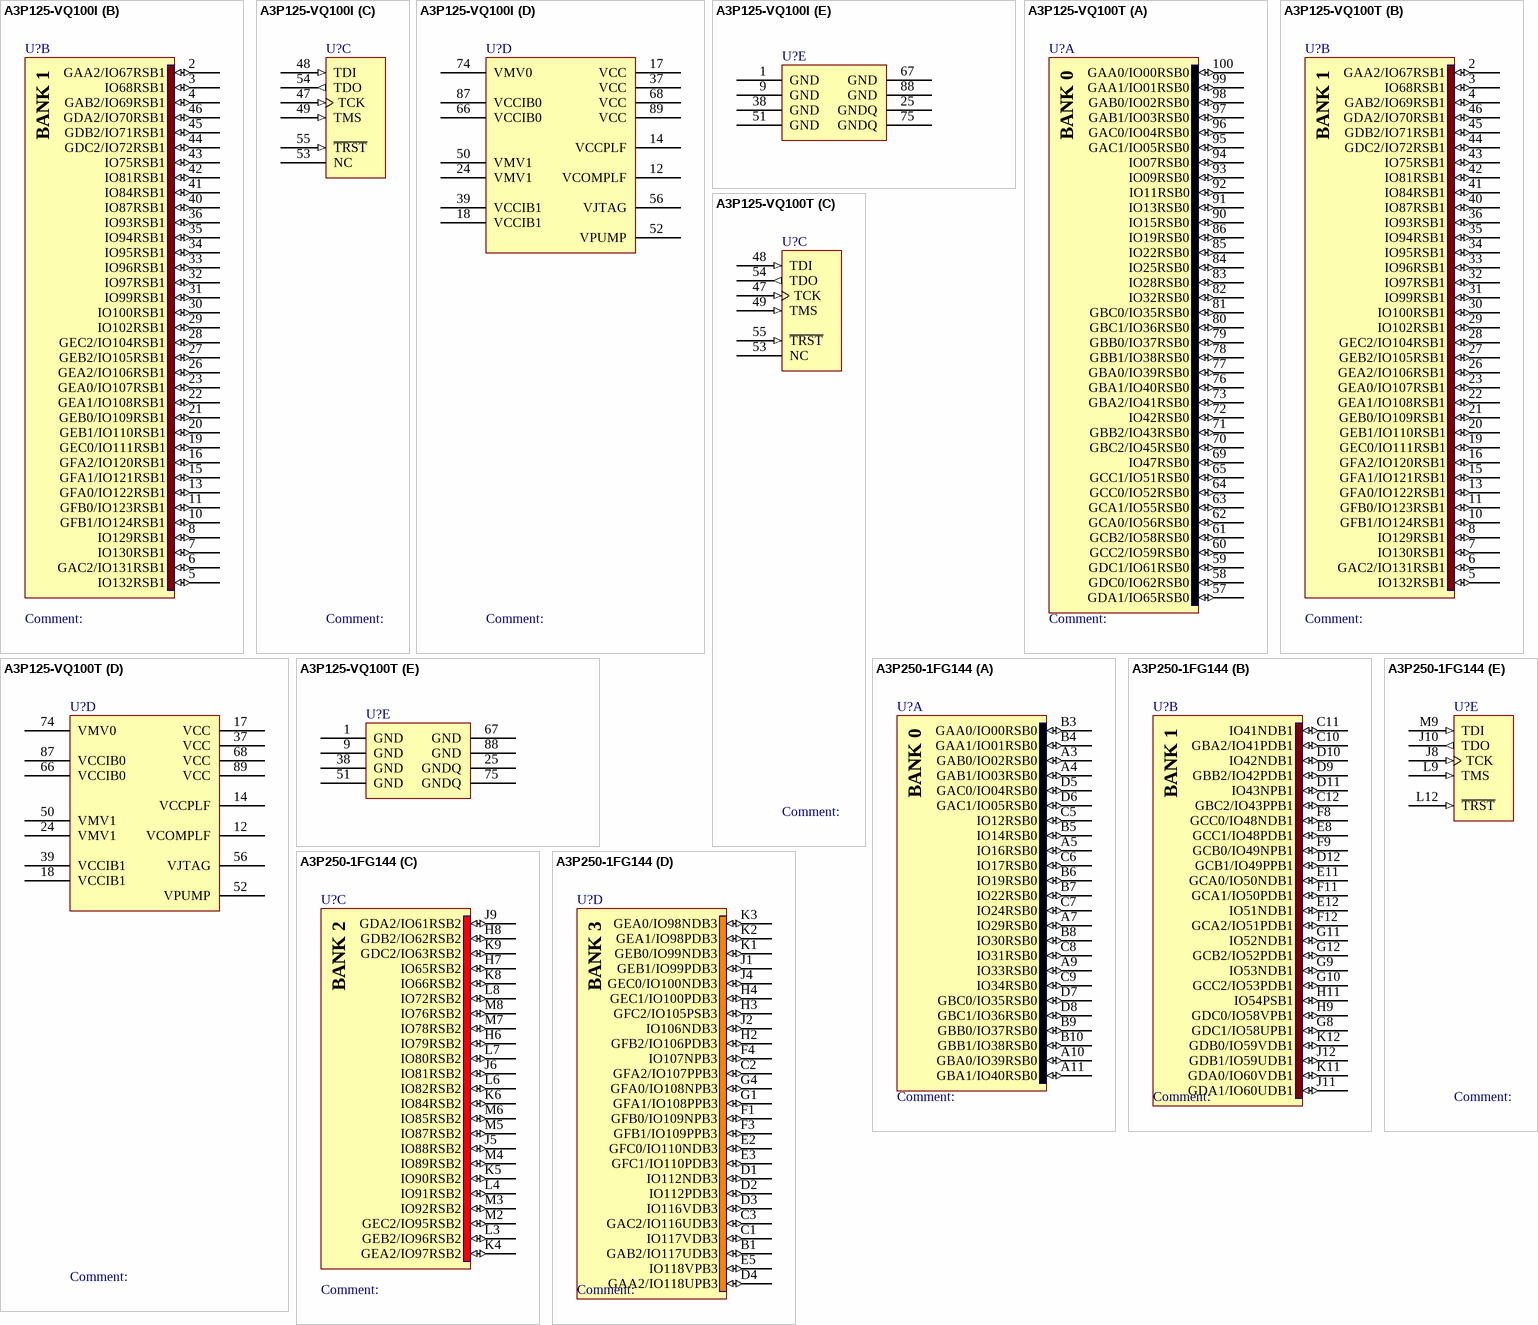
[diagram p58: symbols A3P125-VQ100I to A3P250-1FG144]

## A3P125-VQ100I
designator U?
ProASIC3 Flash Family FPGA, 71 User IOs, 125K System Gates, 36 Kbits RAM, 1 Kbit Flash ROM, 1 PLL, 100-Pin VQFP, Industrial Grade; Published: 4-Mar-2005; LatestRevisionDate: 11-Dec-2009; LatestRevisionNote: Updated to datasheet version 1.3 Oct-2009.; DatasheetVersion: v1.3, Oct-2009; PackageVersion: ver11.2, Nov-2009; PackageReference: VQ100; Publisher: Altium Limited; PackageDescription: 100-Pin Plastic Quad Flat Pack (VQ100); Code_JEDEC: MS-026-AED; ComponentLink1Description: ProASIC3 Datasheet; ComponentLink1URL: http://www.actel.com/documents/PA3_DS.pdf; ComponentLink2Description: Package Mechanical Drawings; ComponentLink2URL: http://www.actel.com/documents/PckgMechDrwngs.pdf; ComponentLink3Description: ProASIC3 Documents; ComponentLink3URL: http://www.actel.com/products/pa3/docs.aspx; ComponentLink4Description: Actel.com Home; ComponentLink4URL: http://www.actel.com/
footprint VQ100_N (Thin QFP, 100-Leads, Body 14x14mm, Pitch 0.5mm, IPC Medium Density)
footprint VQ100_L (Thin QFP, 100-Leads, Body 14x14mm, Pitch 0.5mm, IPC High Density)
footprint VQ100_M (Thin QFP, 100-Leads, Body 14x14mm, Pitch 0.5mm, IPC Low Density)
signal-integrity model A3P125_VQ100 (ProASIC3)
part A pins: 57 GDA1/IO65RSB0 (io), 58 GDC0/IO62RSB0 (io), 59 GDC1/IO61RSB0 (io), 60 GCC2/IO59RSB0 (io), 61 GCB2/IO58RSB0 (io), 62 GCA0/IO56RSB0 (io), 63 GCA1/IO55RSB0 (io), 64 GCC0/IO52RSB0 (io), 65 GCC1/IO51RSB0 (io), 69 IO47RSB0 (io), 70 GBC2/IO45RSB0 (io), 71 GBB2/IO43RSB0 (io), 72 IO42RSB0 (io), 73 GBA2/IO41RSB0 (io), 76 GBA1/IO40RSB0 (io), 77 GBA0/IO39RSB0 (io), 78 GBB1/IO38RSB0 (io), 79 GBB0/IO37RSB0 (io), 80 GBC1/IO36RSB0 (io), 81 GBC0/IO35RSB0 (io), 82 IO32RSB0 (io), 83 IO28RSB0 (io), 84 IO25RSB0 (io), 85 IO22RSB0 (io), 86 IO19RSB0 (io), 90 IO15RSB0 (io), 91 IO13RSB0 (io), 92 IO11RSB0 (io), 93 IO09RSB0 (io), 94 IO07RSB0 (io), 95 GAC1/IO05RSB0 (io), 96 GAC0/IO04RSB0 (io), 97 GAB1/IO03RSB0 (io), 98 GAB0/IO02RSB0 (io), 99 GAA1/IO01RSB0 (io), 100 GAA0/IO00RSB0 (io)
part B pins: 2 GAA2/IO67RSB1 (io), 3 IO68RSB1 (io), 4 GAB2/IO69RSB1 (io), 5 IO132RSB1 (io), 6 GAC2/IO131RSB1 (io), 7 IO130RSB1 (io), 8 IO129RSB1 (io), 10 GFB1/IO124RSB1 (io), 11 GFB0/IO123RSB1 (io), 13 GFA0/IO122RSB1 (io), 15 GFA1/IO121RSB1 (io), 16 GFA2/IO120RSB1 (io), 19 GEC0/IO111RSB1 (io), 20 GEB1/IO110RSB1 (io), 21 GEB0/IO109RSB1 (io), 22 GEA1/IO108RSB1 (io), 23 GEA0/IO107RSB1 (io), 26 GEA2/IO106RSB1 (io), 27 GEB2/IO105RSB1 (io), 28 GEC2/IO104RSB1 (io), 29 IO102RSB1 (io), 30 IO100RSB1 (io), 31 IO99RSB1 (io), 32 IO97RSB1 (io), 33 IO96RSB1 (io), 34 IO95RSB1 (io), 35 IO94RSB1 (io), 36 IO93RSB1 (io), 40 IO87RSB1 (io), 41 IO84RSB1 (io), 42 IO81RSB1 (io), 43 IO75RSB1 (io), 44 GDC2/IO72RSB1 (io), 45 GDB2/IO71RSB1 (io), 46 GDA2/IO70RSB1 (io)
part C pins: 47 TCK (in), 48 TDI (in), 49 TMS (in), 53 NC, 54 TDO (out), 55 ~{TRST} (in)
part D pins: 12 VCOMPLF (power), 14 VCCPLF (power), 17 VCC (power), 18 VCCIB1 (power), 24 VMV1 (power), 37 VCC (power), 39 VCCIB1 (power), 50 VMV1 (power), 52 VPUMP (power), 56 VJTAG (power), 66 VCCIB0 (power), 68 VCC (power), 74 VMV0 (power), 87 VCCIB0 (power), 89 VCC (power)
part E pins: 1 GND (power), 9 GND (power), 25 GNDQ (power), 38 GND (power), 51 GND (power), 67 GND (power), 75 GNDQ (power), 88 GND (power)
part A text: BANK 0
part B text: BANK 1

## A3P125-VQ100T
designator U?
ProASIC3 Flash Family FPGA, 71 User IOs, 125K System Gates, 36 Kbits RAM, 1 Kbit Flash ROM, 1 PLL, 100-Pin VQFP, Automotive Grade; Published: 11-Dec-2009; DatasheetVersion: v1.1, Dec-2009; PackageVersion: ver11.2, Nov-2009; PackageReference: VQ100; Publisher: Altium Limited; PackageDescription: 100-Pin Plastic Quad Flat Pack (VQ100); Code_JEDEC: MS-026-AED; ComponentLink1Description: ProASIC3 Datasheet; ComponentLink1URL: http://www.actel.com/documents/PA3_DS.pdf; ComponentLink2Description: Package Mechanical Drawings; ComponentLink2URL: http://www.actel.com/documents/PckgMechDrwngs.pdf; ComponentLink3Description: ProASIC3 Documents; ComponentLink3URL: http://www.actel.com/products/pa3/docs.aspx; ComponentLink4Description: Actel.com Home; ComponentLink4URL: http://www.actel.com/
footprint VQ100_N (Thin QFP, 100-Leads, Body 14x14mm, Pitch 0.5mm, IPC Medium Density)
footprint VQ100_L (Thin QFP, 100-Leads, Body 14x14mm, Pitch 0.5mm, IPC High Density)
footprint VQ100_M (Thin QFP, 100-Leads, Body 14x14mm, Pitch 0.5mm, IPC Low Density)
signal-integrity model A3P125_VQ100 (ProASIC3)
part A pins: 57 GDA1/IO65RSB0 (io), 58 GDC0/IO62RSB0 (io), 59 GDC1/IO61RSB0 (io), 60 GCC2/IO59RSB0 (io), 61 GCB2/IO58RSB0 (io), 62 GCA0/IO56RSB0 (io), 63 GCA1/IO55RSB0 (io), 64 GCC0/IO52RSB0 (io), 65 GCC1/IO51RSB0 (io), 69 IO47RSB0 (io), 70 GBC2/IO45RSB0 (io), 71 GBB2/IO43RSB0 (io), 72 IO42RSB0 (io), 73 GBA2/IO41RSB0 (io), 76 GBA1/IO40RSB0 (io), 77 GBA0/IO39RSB0 (io), 78 GBB1/IO38RSB0 (io), 79 GBB0/IO37RSB0 (io), 80 GBC1/IO36RSB0 (io), 81 GBC0/IO35RSB0 (io), 82 IO32RSB0 (io), 83 IO28RSB0 (io), 84 IO25RSB0 (io), 85 IO22RSB0 (io), 86 IO19RSB0 (io), 90 IO15RSB0 (io), 91 IO13RSB0 (io), 92 IO11RSB0 (io), 93 IO09RSB0 (io), 94 IO07RSB0 (io), 95 GAC1/IO05RSB0 (io), 96 GAC0/IO04RSB0 (io), 97 GAB1/IO03RSB0 (io), 98 GAB0/IO02RSB0 (io), 99 GAA1/IO01RSB0 (io), 100 GAA0/IO00RSB0 (io)
part B pins: 2 GAA2/IO67RSB1 (io), 3 IO68RSB1 (io), 4 GAB2/IO69RSB1 (io), 5 IO132RSB1 (io), 6 GAC2/IO131RSB1 (io), 7 IO130RSB1 (io), 8 IO129RSB1 (io), 10 GFB1/IO124RSB1 (io), 11 GFB0/IO123RSB1 (io), 13 GFA0/IO122RSB1 (io), 15 GFA1/IO121RSB1 (io), 16 GFA2/IO120RSB1 (io), 19 GEC0/IO111RSB1 (io), 20 GEB1/IO110RSB1 (io), 21 GEB0/IO109RSB1 (io), 22 GEA1/IO108RSB1 (io), 23 GEA0/IO107RSB1 (io), 26 GEA2/IO106RSB1 (io), 27 GEB2/IO105RSB1 (io), 28 GEC2/IO104RSB1 (io), 29 IO102RSB1 (io), 30 IO100RSB1 (io), 31 IO99RSB1 (io), 32 IO97RSB1 (io), 33 IO96RSB1 (io), 34 IO95RSB1 (io), 35 IO94RSB1 (io), 36 IO93RSB1 (io), 40 IO87RSB1 (io), 41 IO84RSB1 (io), 42 IO81RSB1 (io), 43 IO75RSB1 (io), 44 GDC2/IO72RSB1 (io), 45 GDB2/IO71RSB1 (io), 46 GDA2/IO70RSB1 (io)
part C pins: 47 TCK (in), 48 TDI (in), 49 TMS (in), 53 NC, 54 TDO (out), 55 ~{TRST} (in)
part D pins: 12 VCOMPLF (power), 14 VCCPLF (power), 17 VCC (power), 18 VCCIB1 (power), 24 VMV1 (power), 37 VCC (power), 39 VCCIB1 (power), 50 VMV1 (power), 52 VPUMP (power), 56 VJTAG (power), 66 VCCIB0 (power), 68 VCC (power), 74 VMV0 (power), 87 VCCIB0 (power), 89 VCC (power)
part E pins: 1 GND (power), 9 GND (power), 25 GNDQ (power), 38 GND (power), 51 GND (power), 67 GND (power), 75 GNDQ (power), 88 GND (power)
part A text: BANK 0
part B text: BANK 1

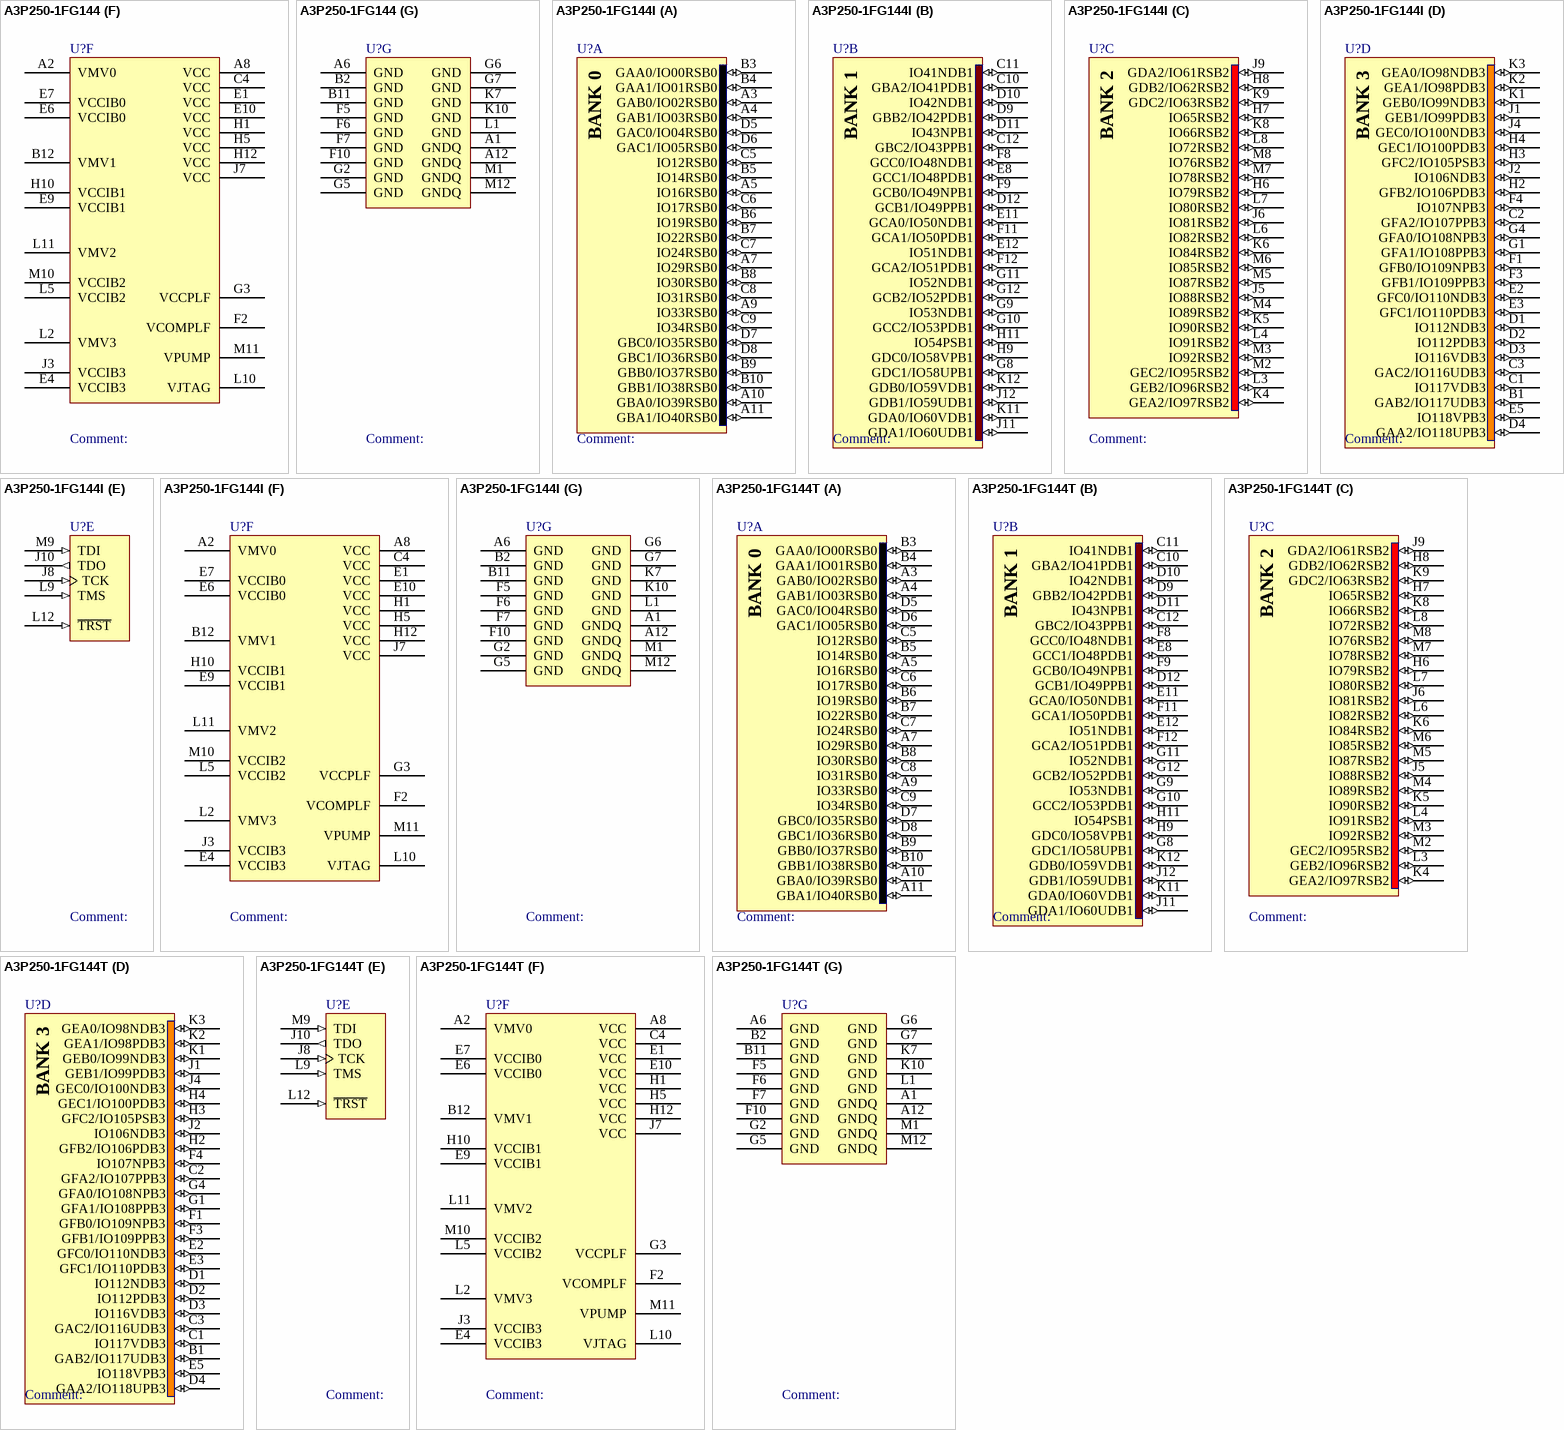
[diagram p59: symbols A3P250-1FG144 to A3P250-1FG144T]

## A3P250-1FG144
designator U?
ProASIC3 Flash Family FPGA, 97 User IOs, 250K System Gates, 36 Kbits RAM, 1 Kbit Flash ROM, 1 PLL, 144-Ball FBGA, Commercial Grade; Published: 4-Mar-2005; LatestRevisionDate: 11-Dec-2009; LatestRevisionNote: Updated to datasheet version 1.3 Oct-2009.; DatasheetVersion: v1.3, Oct-2009; PackageVersion: ver11.2, Nov-2009; PackageReference: FG144; Publisher: Altium Limited; PackageDescription: 144-Ball Fine Pitch Plastic Ball Grid Array (FG144); Code_JEDEC: MO-192-DAD-1; ComponentLink1Description: ProASIC3 Datasheet; ComponentLink1URL: http://www.actel.com/documents/PA3_DS.pdf; ComponentLink2Description: Package Mechanical Drawings; ComponentLink2URL: http://www.actel.com/documents/PckgMechDrwngs.pdf; ComponentLink3Description: ProASIC3 Documents; ComponentLink3URL: http://www.actel.com/products/pa3/docs.aspx; ComponentLink4Description: Actel.com Home; ComponentLink4URL: http://www.actel.com/
footprint FG144 (BGA, 144-Leads, Body 13x13mm, Pitch 1mm)
signal-integrity model A3P250_FG144 (ProASIC3)
part A pins: A3 GAB0/IO02RSB0 (io), A4 GAB1/IO03RSB0 (io), A5 IO16RSB0 (io), A7 IO29RSB0 (io), A9 IO33RSB0 (io), A10 GBA0/IO39RSB0 (io), A11 GBA1/IO40RSB0 (io), B3 GAA0/IO00RSB0 (io), B4 GAA1/IO01RSB0 (io), B5 IO14RSB0 (io), B6 IO19RSB0 (io), B7 IO22RSB0 (io), B8 IO30RSB0 (io), B9 GBB0/IO37RSB0 (io), B10 GBB1/IO38RSB0 (io), C5 IO12RSB0 (io), C6 IO17RSB0 (io), C7 IO24RSB0 (io), C8 IO31RSB0 (io), C9 IO34RSB0 (io), D5 GAC0/IO04RSB0 (io), D6 GAC1/IO05RSB0 (io), D7 GBC0/IO35RSB0 (io), D8 GBC1/IO36RSB0 (io)
part B pins: C10 GBA2/IO41PDB1 (io), C11 IO41NDB1 (io), C12 GBC2/IO43PPB1 (io), D9 GBB2/IO42PDB1 (io), D10 IO42NDB1 (io), D11 IO43NPB1 (io), D12 GCB1/IO49PPB1 (io), E8 GCC1/IO48PDB1 (io), E11 GCA0/IO50NDB1 (io), E12 IO51NDB1 (io), F8 GCC0/IO48NDB1 (io), F9 GCB0/IO49NPB1 (io), F11 GCA1/IO50PDB1 (io), F12 GCA2/IO51PDB1 (io), G8 GDC1/IO58UPB1 (io), G9 IO53NDB1 (io), G10 GCC2/IO53PDB1 (io), G11 IO52NDB1 (io), G12 GCB2/IO52PDB1 (io), H9 GDC0/IO58VPB1 (io), H11 IO54PSB1 (io), J11 GDA1/IO60UDB1 (io), J12 GDB1/IO59UDB1 (io), K11 GDA0/IO60VDB1 (io), K12 GDB0/IO59VDB1 (io)
part C pins: H6 IO79RSB2 (io), H7 IO65RSB2 (io), H8 GDB2/IO62RSB2 (io), J5 IO88RSB2 (io), J6 IO81RSB2 (io), J9 GDA2/IO61RSB2 (io), K4 GEA2/IO97RSB2 (io), K5 IO90RSB2 (io), K6 IO84RSB2 (io), K8 IO66RSB2 (io), K9 GDC2/IO63RSB2 (io), L3 GEB2/IO96RSB2 (io), L4 IO91RSB2 (io), L6 IO82RSB2 (io), L7 IO80RSB2 (io), L8 IO72RSB2 (io), M2 GEC2/IO95RSB2 (io), M3 IO92RSB2 (io), M4 IO89RSB2 (io), M5 IO87RSB2 (io), M6 IO85RSB2 (io), M7 IO78RSB2 (io), M8 IO76RSB2 (io)
part D pins: B1 GAB2/IO117UDB3 (io), C1 IO117VDB3 (io), C2 GFA2/IO107PPB3 (io), C3 GAC2/IO116UDB3 (io), D1 IO112NDB3 (io), D2 IO112PDB3 (io), D3 IO116VDB3 (io), D4 GAA2/IO118UPB3 (io), E2 GFC0/IO110NDB3 (io), E3 GFC1/IO110PDB3 (io), E5 IO118VPB3 (io), F1 GFB0/IO109NPB3 (io), F3 GFB1/IO109PPB3 (io), F4 IO107NPB3 (io), G1 GFA1/IO108PPB3 (io), G4 GFA0/IO108NPB3 (io), H2 GFB2/IO106PDB3 (io), H3 GFC2/IO105PSB3 (io), H4 GEC1/IO100PDB3 (io), J1 GEB1/IO99PDB3 (io), J2 IO106NDB3 (io), J4 GEC0/IO100NDB3 (io), K1 GEB0/IO99NDB3 (io), K2 GEA1/IO98PDB3 (io), K3 GEA0/IO98NDB3 (io)
part E pins: J8 TCK (in), J10 TDO (out), L9 TMS (in), L12 ~{TRST} (in), M9 TDI (in)
part F pins: A2 VMV0 (power), A8 VCC (power), B12 VMV1 (power), C4 VCC (power), E1 VCC (power), E4 VCCIB3 (power), E6 VCCIB0 (power), E7 VCCIB0 (power), E9 VCCIB1 (power), E10 VCC (power), F2 VCOMPLF (power), G3 VCCPLF (power), H1 VCC (power), H5 VCC (power), H10 VCCIB1 (power), H12 VCC (power), J3 VCCIB3 (power), J7 VCC (power), L2 VMV3 (power), L5 VCCIB2 (power), L10 VJTAG (power), L11 VMV2 (power), M10 VCCIB2 (power), M11 VPUMP (power)
part G pins: A1 GNDQ (power), A6 GND (power), A12 GNDQ (power), B2 GND (power), B11 GND (power), F5 GND (power), F6 GND (power), F7 GND (power), F10 GND (power), G2 GND (power), G5 GND (power), G6 GND (power), G7 GND (power), K7 GND (power), K10 GND (power), L1 GND (power), M1 GNDQ (power), M12 GNDQ (power)
part A text: BANK 0
part B text: BANK 1
part C text: BANK 2
part D text: BANK 3

## A3P250-1FG144I
designator U?
ProASIC3 Flash Family FPGA, 97 User IOs, 250K System Gates, 36 Kbits RAM, 1 Kbit Flash ROM, 1 PLL, 144-Ball FBGA, Industrial Grade; Published: 4-Mar-2005; LatestRevisionDate: 11-Dec-2009; LatestRevisionNote: Updated to datasheet version 1.3 Oct-2009.; DatasheetVersion: v1.3, Oct-2009; PackageVersion: ver11.2, Nov-2009; PackageReference: FG144; Publisher: Altium Limited; PackageDescription: 144-Ball Fine Pitch Plastic Ball Grid Array (FG144); Code_JEDEC: MO-192-DAD-1; ComponentLink1Description: ProASIC3 Datasheet; ComponentLink1URL: http://www.actel.com/documents/PA3_DS.pdf; ComponentLink2Description: Package Mechanical Drawings; ComponentLink2URL: http://www.actel.com/documents/PckgMechDrwngs.pdf; ComponentLink3Description: ProASIC3 Documents; ComponentLink3URL: http://www.actel.com/products/pa3/docs.aspx; ComponentLink4Description: Actel.com Home; ComponentLink4URL: http://www.actel.com/
footprint FG144 (BGA, 144-Leads, Body 13x13mm, Pitch 1mm)
signal-integrity model A3P250_FG144 (ProASIC3)
part A pins: A3 GAB0/IO02RSB0 (io), A4 GAB1/IO03RSB0 (io), A5 IO16RSB0 (io), A7 IO29RSB0 (io), A9 IO33RSB0 (io), A10 GBA0/IO39RSB0 (io), A11 GBA1/IO40RSB0 (io), B3 GAA0/IO00RSB0 (io), B4 GAA1/IO01RSB0 (io), B5 IO14RSB0 (io), B6 IO19RSB0 (io), B7 IO22RSB0 (io), B8 IO30RSB0 (io), B9 GBB0/IO37RSB0 (io), B10 GBB1/IO38RSB0 (io), C5 IO12RSB0 (io), C6 IO17RSB0 (io), C7 IO24RSB0 (io), C8 IO31RSB0 (io), C9 IO34RSB0 (io), D5 GAC0/IO04RSB0 (io), D6 GAC1/IO05RSB0 (io), D7 GBC0/IO35RSB0 (io), D8 GBC1/IO36RSB0 (io)
part B pins: C10 GBA2/IO41PDB1 (io), C11 IO41NDB1 (io), C12 GBC2/IO43PPB1 (io), D9 GBB2/IO42PDB1 (io), D10 IO42NDB1 (io), D11 IO43NPB1 (io), D12 GCB1/IO49PPB1 (io), E8 GCC1/IO48PDB1 (io), E11 GCA0/IO50NDB1 (io), E12 IO51NDB1 (io), F8 GCC0/IO48NDB1 (io), F9 GCB0/IO49NPB1 (io), F11 GCA1/IO50PDB1 (io), F12 GCA2/IO51PDB1 (io), G8 GDC1/IO58UPB1 (io), G9 IO53NDB1 (io), G10 GCC2/IO53PDB1 (io), G11 IO52NDB1 (io), G12 GCB2/IO52PDB1 (io), H9 GDC0/IO58VPB1 (io), H11 IO54PSB1 (io), J11 GDA1/IO60UDB1 (io), J12 GDB1/IO59UDB1 (io), K11 GDA0/IO60VDB1 (io), K12 GDB0/IO59VDB1 (io)
part C pins: H6 IO79RSB2 (io), H7 IO65RSB2 (io), H8 GDB2/IO62RSB2 (io), J5 IO88RSB2 (io), J6 IO81RSB2 (io), J9 GDA2/IO61RSB2 (io), K4 GEA2/IO97RSB2 (io), K5 IO90RSB2 (io), K6 IO84RSB2 (io), K8 IO66RSB2 (io), K9 GDC2/IO63RSB2 (io), L3 GEB2/IO96RSB2 (io), L4 IO91RSB2 (io), L6 IO82RSB2 (io), L7 IO80RSB2 (io), L8 IO72RSB2 (io), M2 GEC2/IO95RSB2 (io), M3 IO92RSB2 (io), M4 IO89RSB2 (io), M5 IO87RSB2 (io), M6 IO85RSB2 (io), M7 IO78RSB2 (io), M8 IO76RSB2 (io)
part D pins: B1 GAB2/IO117UDB3 (io), C1 IO117VDB3 (io), C2 GFA2/IO107PPB3 (io), C3 GAC2/IO116UDB3 (io), D1 IO112NDB3 (io), D2 IO112PDB3 (io), D3 IO116VDB3 (io), D4 GAA2/IO118UPB3 (io), E2 GFC0/IO110NDB3 (io), E3 GFC1/IO110PDB3 (io), E5 IO118VPB3 (io), F1 GFB0/IO109NPB3 (io), F3 GFB1/IO109PPB3 (io), F4 IO107NPB3 (io), G1 GFA1/IO108PPB3 (io), G4 GFA0/IO108NPB3 (io), H2 GFB2/IO106PDB3 (io), H3 GFC2/IO105PSB3 (io), H4 GEC1/IO100PDB3 (io), J1 GEB1/IO99PDB3 (io), J2 IO106NDB3 (io), J4 GEC0/IO100NDB3 (io), K1 GEB0/IO99NDB3 (io), K2 GEA1/IO98PDB3 (io), K3 GEA0/IO98NDB3 (io)
part E pins: J8 TCK (in), J10 TDO (out), L9 TMS (in), L12 ~{TRST} (in), M9 TDI (in)
part F pins: A2 VMV0 (power), A8 VCC (power), B12 VMV1 (power), C4 VCC (power), E1 VCC (power), E4 VCCIB3 (power), E6 VCCIB0 (power), E7 VCCIB0 (power), E9 VCCIB1 (power), E10 VCC (power), F2 VCOMPLF (power), G3 VCCPLF (power), H1 VCC (power), H5 VCC (power), H10 VCCIB1 (power), H12 VCC (power), J3 VCCIB3 (power), J7 VCC (power), L2 VMV3 (power), L5 VCCIB2 (power), L10 VJTAG (power), L11 VMV2 (power), M10 VCCIB2 (power), M11 VPUMP (power)
part G pins: A1 GNDQ (power), A6 GND (power), A12 GNDQ (power), B2 GND (power), B11 GND (power), F5 GND (power), F6 GND (power), F7 GND (power), F10 GND (power), G2 GND (power), G5 GND (power), G6 GND (power), G7 GND (power), K7 GND (power), K10 GND (power), L1 GND (power), M1 GNDQ (power), M12 GNDQ (power)
part A text: BANK 0
part B text: BANK 1
part C text: BANK 2
part D text: BANK 3

## A3P250-1FG144T
designator U?
ProASIC3 Flash Family FPGA, 97 User IOs, 250K System Gates, 36 Kbits RAM, 1 Kbit Flash ROM, 1 PLL, 144-Ball FBGA, Automotive Grade; Published: 11-Dec-2009; DatasheetVersion: v1.1, Dec-2009; PackageVersion: ver11.2, Nov-2009; PackageReference: FG144; Publisher: Altium Limited; PackageDescription: 144-Ball Fine Pitch Plastic Ball Grid Array (FG144); Code_JEDEC: MO-192-DAD-1; ComponentLink1Description: ProASIC3 Datasheet; ComponentLink1URL: http://www.actel.com/documents/PA3_DS.pdf; ComponentLink2Description: Package Mechanical Drawings; ComponentLink2URL: http://www.actel.com/documents/PckgMechDrwngs.pdf; ComponentLink3Description: ProASIC3 Documents; ComponentLink3URL: http://www.actel.com/products/pa3/docs.aspx; ComponentLink4Description: Actel.com Home; ComponentLink4URL: http://www.actel.com/
footprint FG144 (BGA, 144-Leads, Body 13x13mm, Pitch 1mm)
signal-integrity model A3P250_FG144 (ProASIC3)
part A pins: A3 GAB0/IO02RSB0 (io), A4 GAB1/IO03RSB0 (io), A5 IO16RSB0 (io), A7 IO29RSB0 (io), A9 IO33RSB0 (io), A10 GBA0/IO39RSB0 (io), A11 GBA1/IO40RSB0 (io), B3 GAA0/IO00RSB0 (io), B4 GAA1/IO01RSB0 (io), B5 IO14RSB0 (io), B6 IO19RSB0 (io), B7 IO22RSB0 (io), B8 IO30RSB0 (io), B9 GBB0/IO37RSB0 (io), B10 GBB1/IO38RSB0 (io), C5 IO12RSB0 (io), C6 IO17RSB0 (io), C7 IO24RSB0 (io), C8 IO31RSB0 (io), C9 IO34RSB0 (io), D5 GAC0/IO04RSB0 (io), D6 GAC1/IO05RSB0 (io), D7 GBC0/IO35RSB0 (io), D8 GBC1/IO36RSB0 (io)
part B pins: C10 GBA2/IO41PDB1 (io), C11 IO41NDB1 (io), C12 GBC2/IO43PPB1 (io), D9 GBB2/IO42PDB1 (io), D10 IO42NDB1 (io), D11 IO43NPB1 (io), D12 GCB1/IO49PPB1 (io), E8 GCC1/IO48PDB1 (io), E11 GCA0/IO50NDB1 (io), E12 IO51NDB1 (io), F8 GCC0/IO48NDB1 (io), F9 GCB0/IO49NPB1 (io), F11 GCA1/IO50PDB1 (io), F12 GCA2/IO51PDB1 (io), G8 GDC1/IO58UPB1 (io), G9 IO53NDB1 (io), G10 GCC2/IO53PDB1 (io), G11 IO52NDB1 (io), G12 GCB2/IO52PDB1 (io), H9 GDC0/IO58VPB1 (io), H11 IO54PSB1 (io), J11 GDA1/IO60UDB1 (io), J12 GDB1/IO59UDB1 (io), K11 GDA0/IO60VDB1 (io), K12 GDB0/IO59VDB1 (io)
part C pins: H6 IO79RSB2 (io), H7 IO65RSB2 (io), H8 GDB2/IO62RSB2 (io), J5 IO88RSB2 (io), J6 IO81RSB2 (io), J9 GDA2/IO61RSB2 (io), K4 GEA2/IO97RSB2 (io), K5 IO90RSB2 (io), K6 IO84RSB2 (io), K8 IO66RSB2 (io), K9 GDC2/IO63RSB2 (io), L3 GEB2/IO96RSB2 (io), L4 IO91RSB2 (io), L6 IO82RSB2 (io), L7 IO80RSB2 (io), L8 IO72RSB2 (io), M2 GEC2/IO95RSB2 (io), M3 IO92RSB2 (io), M4 IO89RSB2 (io), M5 IO87RSB2 (io), M6 IO85RSB2 (io), M7 IO78RSB2 (io), M8 IO76RSB2 (io)
part D pins: B1 GAB2/IO117UDB3 (io), C1 IO117VDB3 (io), C2 GFA2/IO107PPB3 (io), C3 GAC2/IO116UDB3 (io), D1 IO112NDB3 (io), D2 IO112PDB3 (io), D3 IO116VDB3 (io), D4 GAA2/IO118UPB3 (io), E2 GFC0/IO110NDB3 (io), E3 GFC1/IO110PDB3 (io), E5 IO118VPB3 (io), F1 GFB0/IO109NPB3 (io), F3 GFB1/IO109PPB3 (io), F4 IO107NPB3 (io), G1 GFA1/IO108PPB3 (io), G4 GFA0/IO108NPB3 (io), H2 GFB2/IO106PDB3 (io), H3 GFC2/IO105PSB3 (io), H4 GEC1/IO100PDB3 (io), J1 GEB1/IO99PDB3 (io), J2 IO106NDB3 (io), J4 GEC0/IO100NDB3 (io), K1 GEB0/IO99NDB3 (io), K2 GEA1/IO98PDB3 (io), K3 GEA0/IO98NDB3 (io)
part E pins: J8 TCK (in), J10 TDO (out), L9 TMS (in), L12 ~{TRST} (in), M9 TDI (in)
part F pins: A2 VMV0 (power), A8 VCC (power), B12 VMV1 (power), C4 VCC (power), E1 VCC (power), E4 VCCIB3 (power), E6 VCCIB0 (power), E7 VCCIB0 (power), E9 VCCIB1 (power), E10 VCC (power), F2 VCOMPLF (power), G3 VCCPLF (power), H1 VCC (power), H5 VCC (power), H10 VCCIB1 (power), H12 VCC (power), J3 VCCIB3 (power), J7 VCC (power), L2 VMV3 (power), L5 VCCIB2 (power), L10 VJTAG (power), L11 VMV2 (power), M10 VCCIB2 (power), M11 VPUMP (power)
part G pins: A1 GNDQ (power), A6 GND (power), A12 GNDQ (power), B2 GND (power), B11 GND (power), F5 GND (power), F6 GND (power), F7 GND (power), F10 GND (power), G2 GND (power), G5 GND (power), G6 GND (power), G7 GND (power), K7 GND (power), K10 GND (power), L1 GND (power), M1 GNDQ (power), M12 GNDQ (power)
part A text: BANK 0
part B text: BANK 1
part C text: BANK 2
part D text: BANK 3

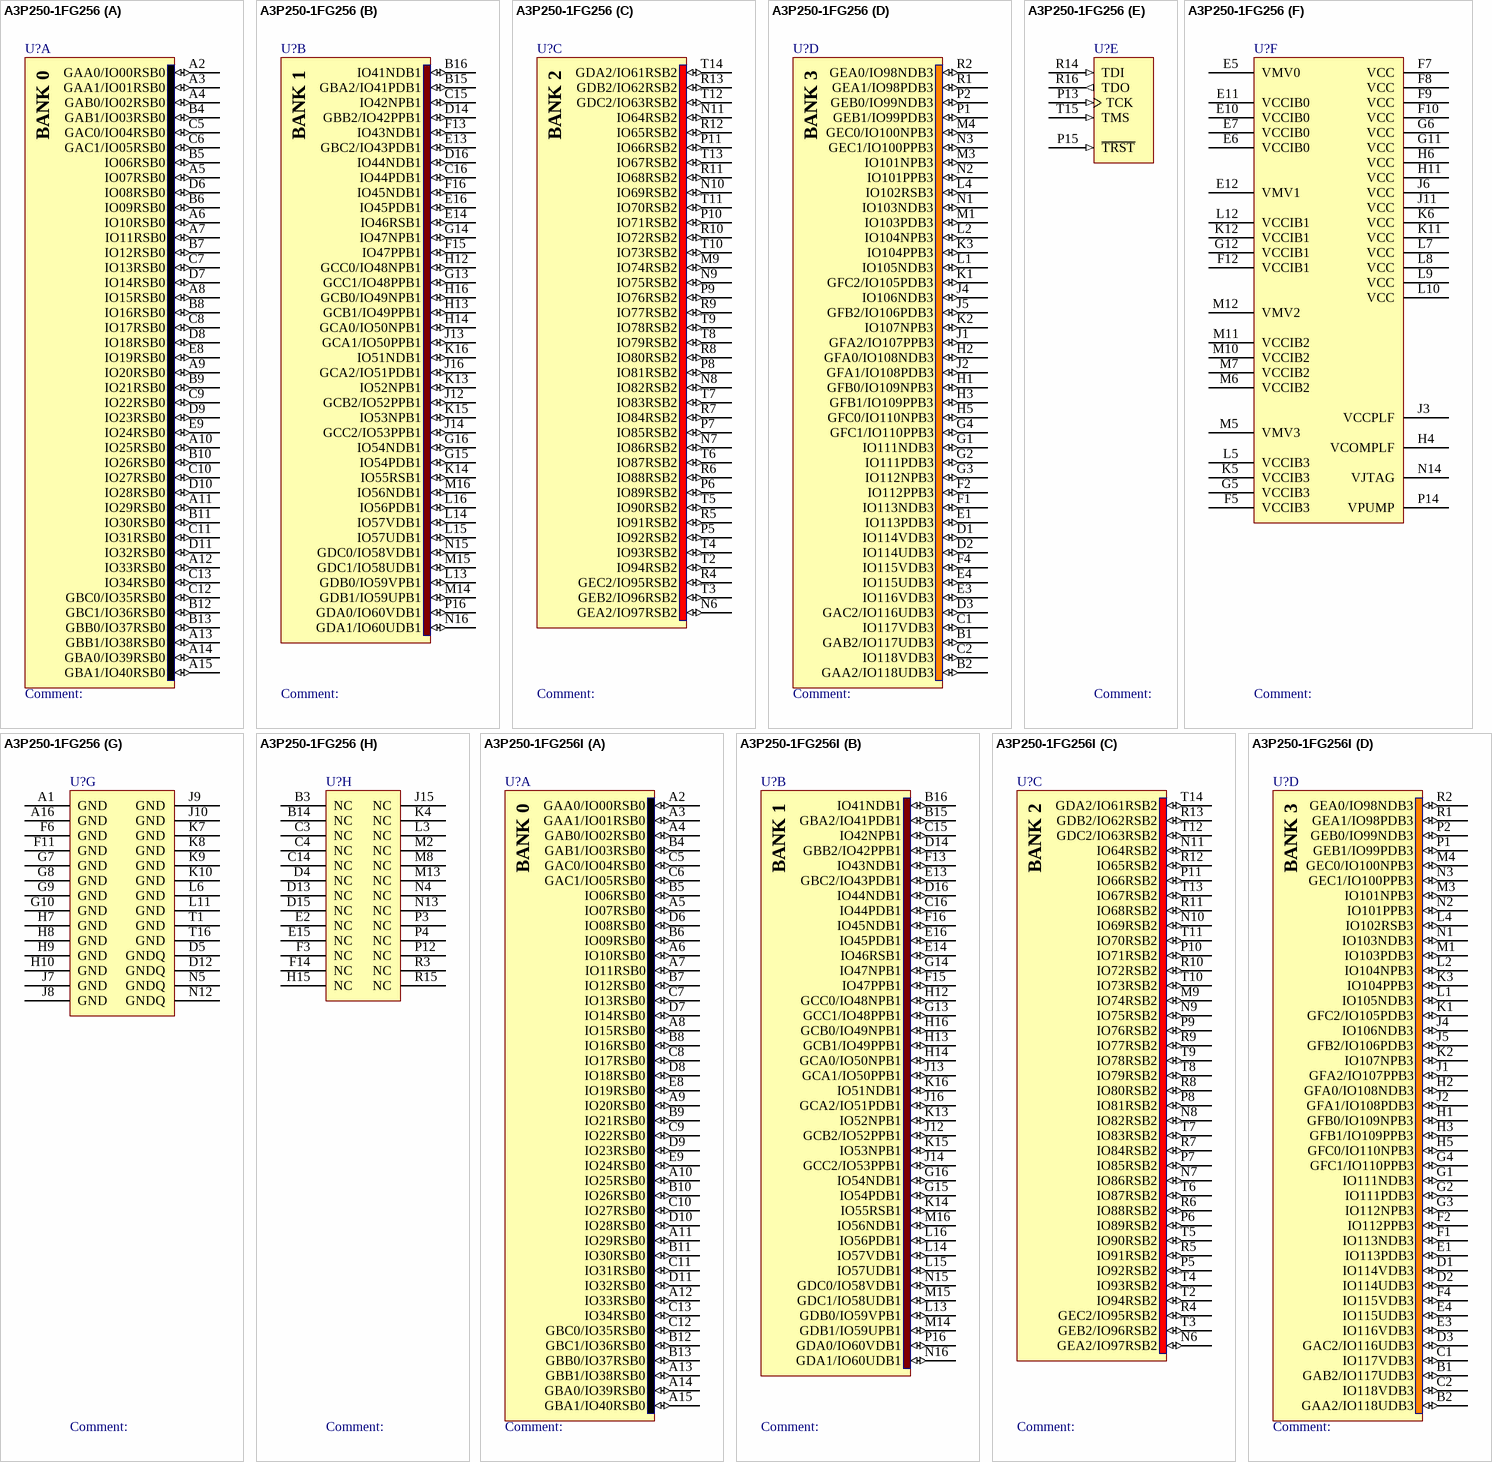
[diagram p60: symbols A3P250-1FG256 to A3P250-1FG256I]

## A3P250-1FG256
designator U?
ProASIC3 Flash Family FPGA, 157 User IOs, 250K System Gates, 36 Kbits RAM, 1 Kbit Flash ROM, 1 PLL, 256-Ball FBGA, Commercial Grade; Published: 4-Mar-2005; LatestRevisionDate: 11-Dec-2009; LatestRevisionNote: Updated to datasheet version 1.3 Oct-2009.; DatasheetVersion: v1.3, Oct-2009; PackageVersion: ver11.2, Nov-2009; PackageReference: FG256; Publisher: Altium Limited; PackageDescription: 256-Ball Fine Pitch Plastic Ball Grid Array 1.00 mm Pitch (FG256); Code_JEDEC: MO-192-DAF-1; ComponentLink1Description: ProASIC3 Datasheet; ComponentLink1URL: http://www.actel.com/documents/PA3_DS.pdf; ComponentLink2Description: Package Mechanical Drawings; ComponentLink2URL: http://www.actel.com/documents/PckgMechDrwngs.pdf; ComponentLink3Description: ProASIC3 Documents; ComponentLink3URL: http://www.actel.com/products/pa3/docs.aspx; ComponentLink4Description: Actel.com Home; ComponentLink4URL: http://www.actel.com/
footprint FG256 (BGA, 256-Leads, Body 17x17mm, Pitch 1mm)
signal-integrity model A3P250_FG256 (ProASIC3)
part A pins: A2 GAA0/IO00RSB0 (io), A3 GAA1/IO01RSB0 (io), A4 GAB0/IO02RSB0 (io), A5 IO07RSB0 (io), A6 IO10RSB0 (io), A7 IO11RSB0 (io), A8 IO15RSB0 (io), A9 IO20RSB0 (io), A10 IO25RSB0 (io), A11 IO29RSB0 (io), A12 IO33RSB0 (io), A13 GBB1/IO38RSB0 (io), A14 GBA0/IO39RSB0 (io), A15 GBA1/IO40RSB0 (io), B4 GAB1/IO03RSB0 (io), B5 IO06RSB0 (io), B6 IO09RSB0 (io), B7 IO12RSB0 (io), B8 IO16RSB0 (io), B9 IO21RSB0 (io), B10 IO26RSB0 (io), B11 IO30RSB0 (io), B12 GBC1/IO36RSB0 (io), B13 GBB0/IO37RSB0 (io), C5 GAC0/IO04RSB0 (io), C6 GAC1/IO05RSB0 (io), C7 IO13RSB0 (io), C8 IO17RSB0 (io), C9 IO22RSB0 (io), C10 IO27RSB0 (io), C11 IO31RSB0 (io), C12 GBC0/IO35RSB0 (io), C13 IO34RSB0 (io), D6 IO08RSB0 (io), D7 IO14RSB0 (io), D8 IO18RSB0 (io), D9 IO23RSB0 (io), D10 IO28RSB0 (io), D11 IO32RSB0 (io), E8 IO19RSB0 (io), E9 IO24RSB0 (io)
part B pins: B15 GBA2/IO41PDB1 (io), B16 IO41NDB1 (io), C15 IO42NPB1 (io), C16 IO44PDB1 (io), D14 GBB2/IO42PPB1 (io), D16 IO44NDB1 (io), E13 GBC2/IO43PDB1 (io), E14 IO46RSB1 (io), E16 IO45PDB1 (io), F13 IO43NDB1 (io), F15 IO47PPB1 (io), F16 IO45NDB1 (io), G13 GCC1/IO48PPB1 (io), G14 IO47NPB1 (io), G15 IO54PDB1 (io), G16 IO54NDB1 (io), H12 GCC0/IO48NPB1 (io), H13 GCB1/IO49PPB1 (io), H14 GCA0/IO50NPB1 (io), H16 GCB0/IO49NPB1 (io), J12 GCB2/IO52PPB1 (io), J13 GCA1/IO50PPB1 (io), J14 GCC2/IO53PPB1 (io), J16 GCA2/IO51PDB1 (io), K13 IO52NPB1 (io), K14 IO55RSB1 (io), K15 IO53NPB1 (io), K16 IO51NDB1 (io), L13 GDB0/IO59VPB1 (io), L14 IO57VDB1 (io), L15 IO57UDB1 (io), L16 IO56PDB1 (io), M14 GDB1/IO59UPB1 (io), M15 GDC1/IO58UDB1 (io), M16 IO56NDB1 (io), N15 GDC0/IO58VDB1 (io), N16 GDA1/IO60UDB1 (io), P16 GDA0/IO60VDB1 (io)
part C pins: M9 IO74RSB2 (io), N6 GEA2/IO97RSB2 (io), N7 IO86RSB2 (io), N8 IO82RSB2 (io), N9 IO75RSB2 (io), N10 IO69RSB2 (io), N11 IO64RSB2 (io), P5 IO92RSB2 (io), P6 IO89RSB2 (io), P7 IO85RSB2 (io), P8 IO81RSB2 (io), P9 IO76RSB2 (io), P10 IO71RSB2 (io), P11 IO66RSB2 (io), R4 GEC2/IO95RSB2 (io), R5 IO91RSB2 (io), R6 IO88RSB2 (io), R7 IO84RSB2 (io), R8 IO80RSB2 (io), R9 IO77RSB2 (io), R10 IO72RSB2 (io), R11 IO68RSB2 (io), R12 IO65RSB2 (io), R13 GDB2/IO62RSB2 (io), T2 IO94RSB2 (io), T3 GEB2/IO96RSB2 (io), T4 IO93RSB2 (io), T5 IO90RSB2 (io), T6 IO87RSB2 (io), T7 IO83RSB2 (io), T8 IO79RSB2 (io), T9 IO78RSB2 (io), T10 IO73RSB2 (io), T11 IO70RSB2 (io), T12 GDC2/IO63RSB2 (io), T13 IO67RSB2 (io), T14 GDA2/IO61RSB2 (io)
part D pins: B1 GAB2/IO117UDB3 (io), B2 GAA2/IO118UDB3 (io), C1 IO117VDB3 (io), C2 IO118VDB3 (io), D1 IO114VDB3 (io), D2 IO114UDB3 (io), D3 GAC2/IO116UDB3 (io), E1 IO113PDB3 (io), E3 IO116VDB3 (io), E4 IO115UDB3 (io), F1 IO113NDB3 (io), F2 IO112PPB3 (io), F4 IO115VDB3 (io), G1 IO111NDB3 (io), G2 IO111PDB3 (io), G3 IO112NPB3 (io), G4 GFC1/IO110PPB3 (io), H1 GFB0/IO109NPB3 (io), H2 GFA0/IO108NDB3 (io), H3 GFB1/IO109PPB3 (io), H5 GFC0/IO110NPB3 (io), J1 GFA2/IO107PPB3 (io), J2 GFA1/IO108PDB3 (io), J4 IO106NDB3 (io), J5 GFB2/IO106PDB3 (io), K1 GFC2/IO105PDB3 (io), K2 IO107NPB3 (io), K3 IO104PPB3 (io), L1 IO105NDB3 (io), L2 IO104NPB3 (io), L4 IO102RSB3 (io), M1 IO103PDB3 (io), M3 IO101NPB3 (io), M4 GEC0/IO100NPB3 (io), N1 IO103NDB3 (io), N2 IO101PPB3 (io), N3 GEC1/IO100PPB3 (io), P1 GEB1/IO99PDB3 (io), P2 GEB0/IO99NDB3 (io), R1 GEA1/IO98PDB3 (io), R2 GEA0/IO98NDB3 (io)
part E pins: P13 TCK (in), P15 ~{TRST} (in), R14 TDI (in), R16 TDO (out), T15 TMS (in)
part F pins: E5 VMV0 (power), E6 VCCIB0 (power), E7 VCCIB0 (power), E10 VCCIB0 (power), E11 VCCIB0 (power), E12 VMV1 (power), F5 VCCIB3 (power), F7 VCC (power), F8 VCC (power), F9 VCC (power), F10 VCC (power), F12 VCCIB1 (power), G5 VCCIB3 (power), G6 VCC (power), G11 VCC (power), G12 VCCIB1 (power), H4 VCOMPLF (power), H6 VCC (power), H11 VCC (power), J3 VCCPLF (power), J6 VCC (power), J11 VCC (power), K5 VCCIB3 (power), K6 VCC (power), K11 VCC (power), K12 VCCIB1 (power), L5 VCCIB3 (power), L7 VCC (power), L8 VCC (power), L9 VCC (power), L10 VCC (power), L12 VCCIB1 (power), M5 VMV3 (power), M6 VCCIB2 (power), M7 VCCIB2 (power), M10 VCCIB2 (power), M11 VCCIB2 (power), M12 VMV2 (power), N14 VJTAG (power), P14 VPUMP (power)
part G pins: A1 GND (power), A16 GND (power), D5 GNDQ (power), D12 GNDQ (power), F6 GND (power), F11 GND (power), G7 GND (power), G8 GND (power), G9 GND (power), G10 GND (power), H7 GND (power), H8 GND (power), H9 GND (power), H10 GND (power), J7 GND (power), J8 GND (power), J9 GND (power), J10 GND (power), K7 GND (power), K8 GND (power), K9 GND (power), K10 GND (power), L6 GND (power), L11 GND (power), N5 GNDQ (power), N12 GNDQ (power), T1 GND (power), T16 GND (power)
part H pins: B3 NC, B14 NC, C3 NC, C4 NC, C14 NC, D4 NC, D13 NC, D15 NC, E2 NC, E15 NC, F3 NC, F14 NC, H15 NC, J15 NC, K4 NC, L3 NC, M2 NC, M8 NC, M13 NC, N4 NC, N13 NC, P3 NC, P4 NC, P12 NC, R3 NC, R15 NC
part A text: BANK 0
part B text: BANK 1
part C text: BANK 2
part D text: BANK 3

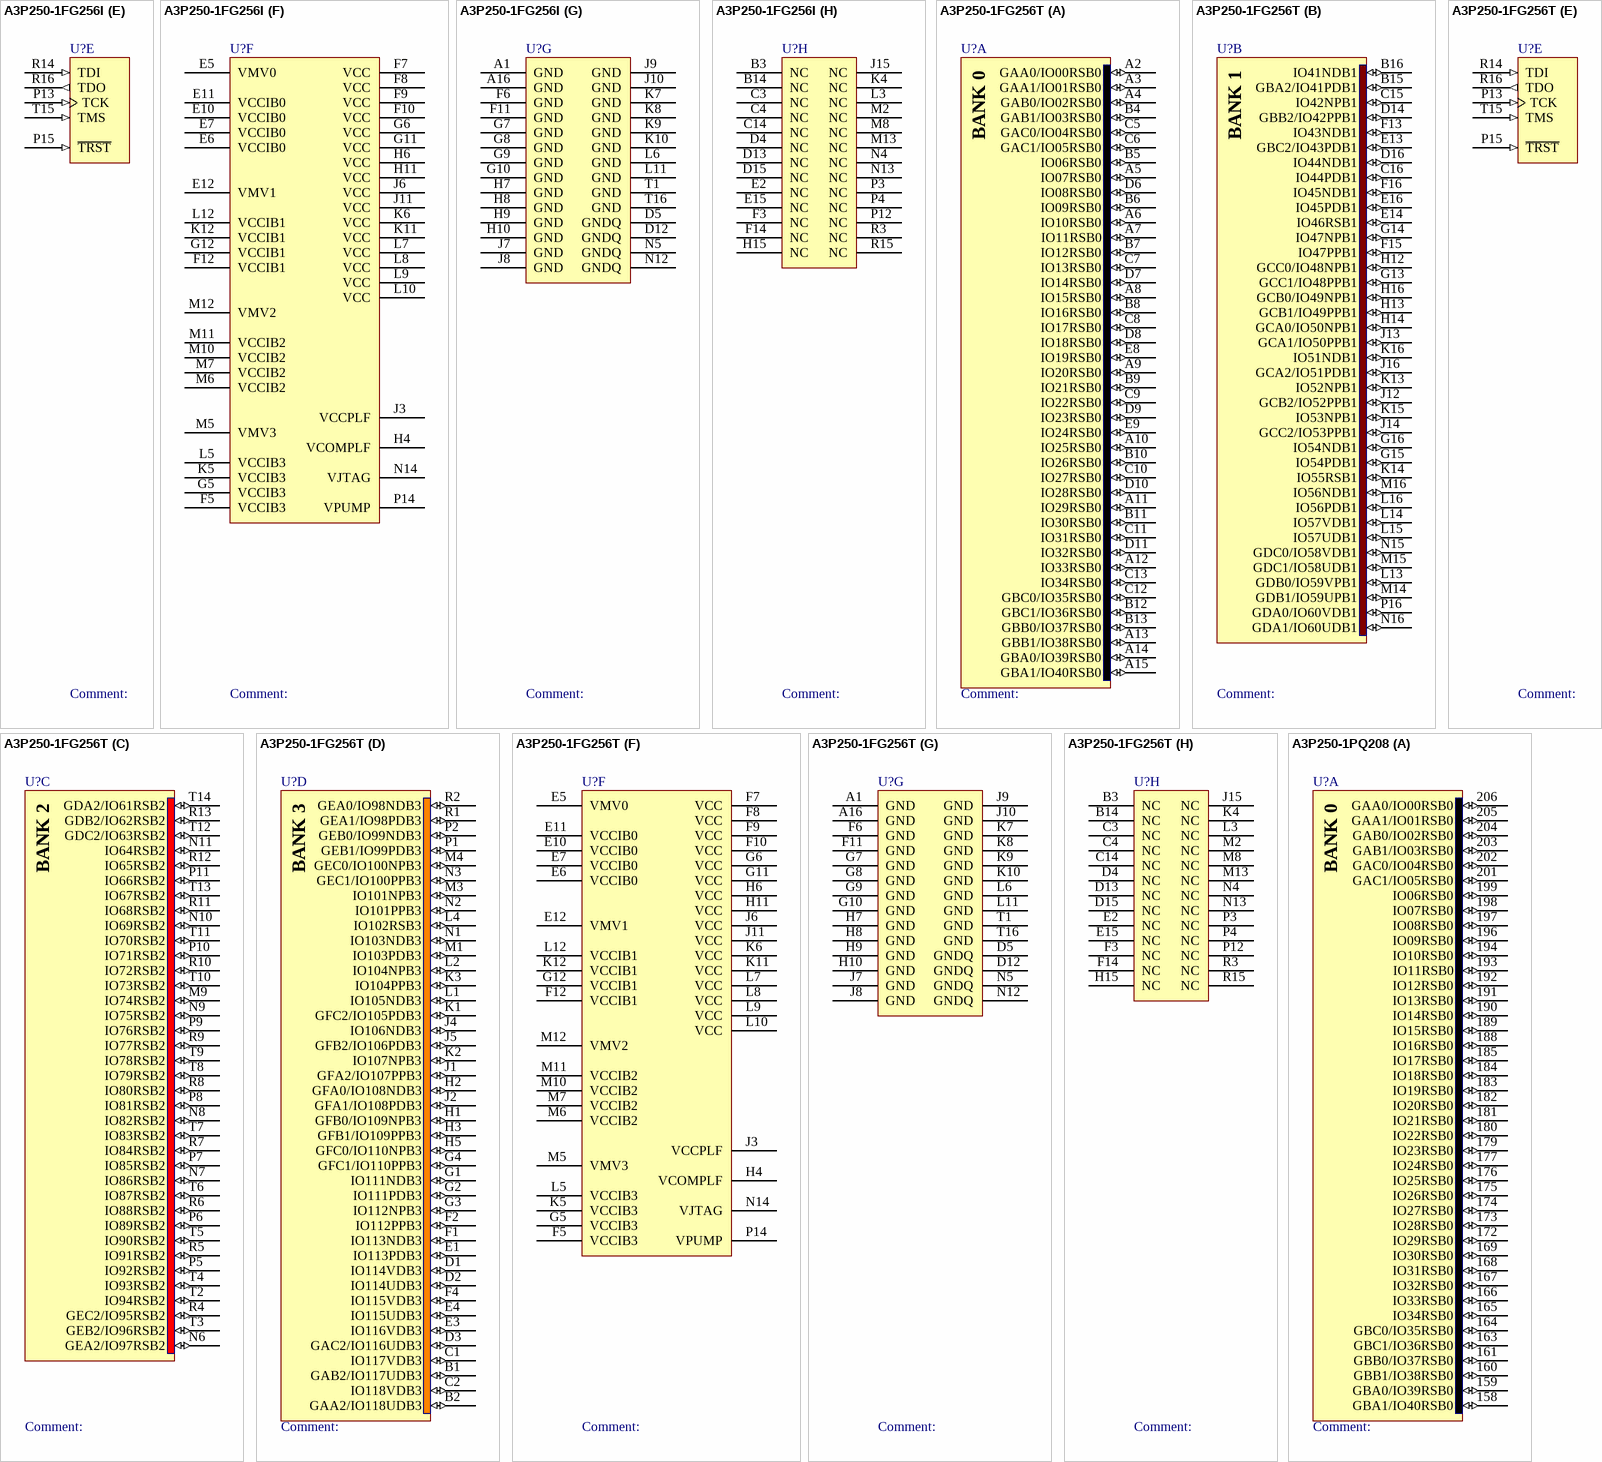
[diagram p61: symbols A3P250-1FG256I to A3P250-1PQ208]